# Altium schematic symbol library amp.SchLib: 167 symbols (part 1 of 2)
Pins are listed as number, name and electrical type; pins without a type are passive.

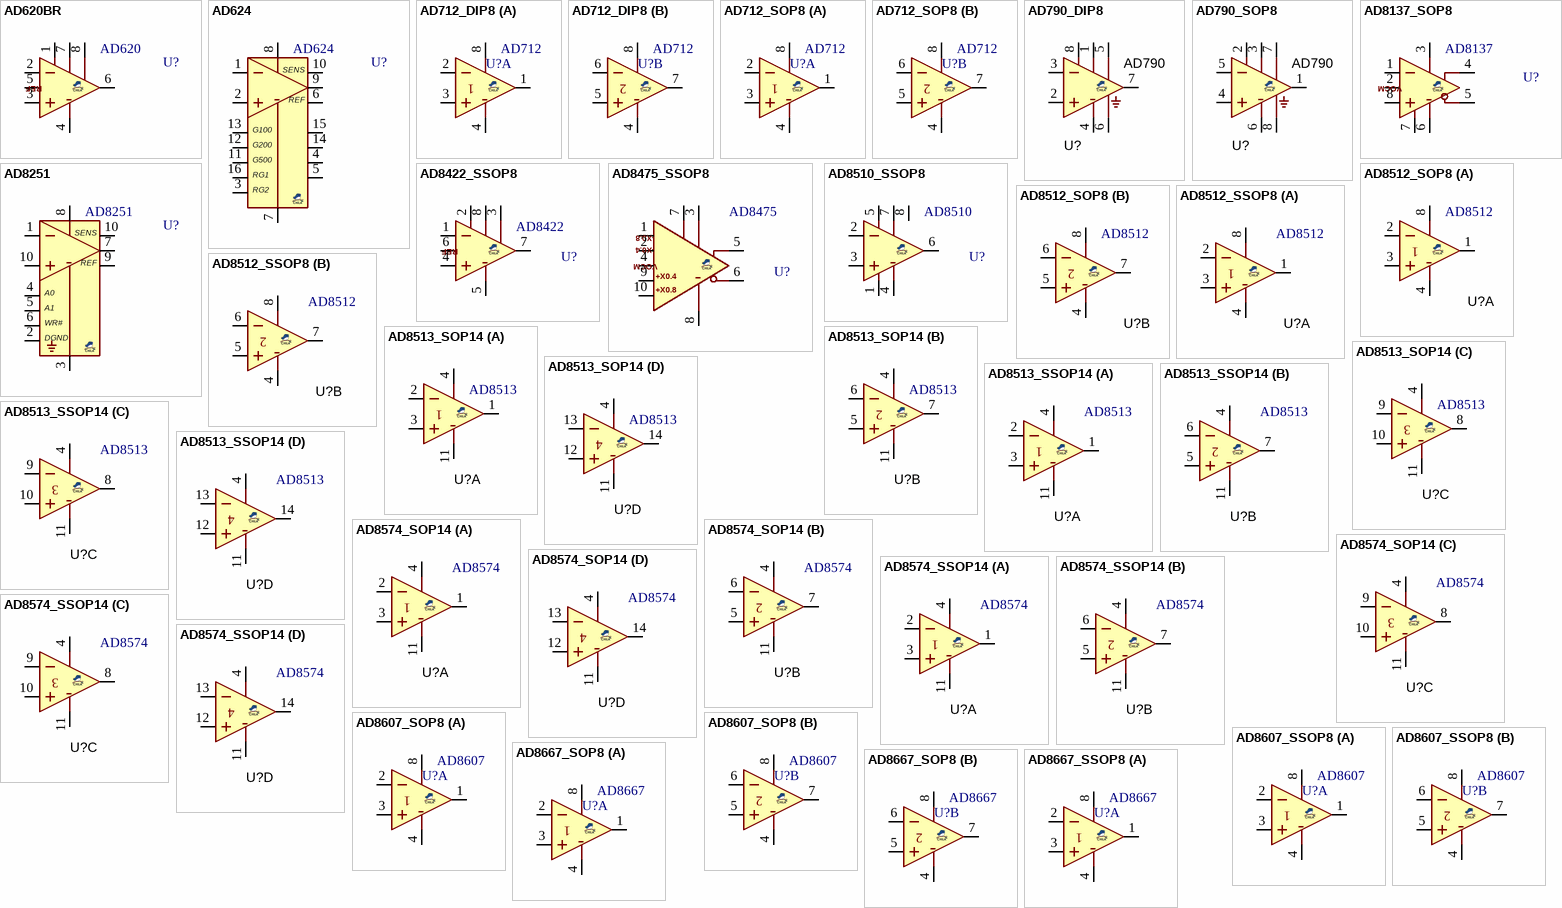
[diagram p0: symbols AD620BR to AD8667_SSOP8]

## AD620BR
designator U?, comment AD620
AMP, Instrumentation, Low-power; MANF_P#: AD620BR; MANF: Analog Devices; VALUE: AD620
footprint SO_8
pins: 1 RG, 2 -IN, 3 +IN, 4 V-, 5 REF, 6 OUT, 7 V+, 8 RG

## AD624
designator U?
AMP, Precision Instrumentation,; MANF: Analog Devices; MANF_P#: AD624; VALUE: AD624
footprint SO_8
pins: 1 -IN, 2 +IN, 3 RG2, 4, 5, 6 REF, 7 V-, 8 V+, 9 OUT, 10 SENS, 11 G500, 12 G200, 13 G100, 14, 15, 16 RG1

## AD712_DIP8
designator U?, comment AD712
AMP, Dual, Precision, Low Cost, High Sp, BiFET; MANF: Analog Devices; MANF_P#: AD712JN; PARAM2: ±4.5 To ±18 V Or +9 To +36 (V); VALUE: AD712
footprint DIP_8 (DIP, pitch 2.54mm, 300mil Width)
pins on every part: 4 V-, 8 V+
part A pins: 1 OUT, 2 IN-, 3 IN+
part B pins: 5 IN+, 6 IN-, 7 OUT

## AD712_SOP8
designator U?, comment AD712
AMP, Dual, Precision, Low Cost, High Sp, BiFET; MANF: Analog Devices; MANF_P#: AD712JRZ; PARAM2: ±4.5 To ±18 V Or +9 To +36 (V); VALUE: AD712
footprint SO_8
pins on every part: 4 V-, 8 V+
part A pins: 1 OUT, 2 IN-, 3 IN+
part B pins: 5 IN+, 6 IN-, 7 OUT

## AD790_DIP8
designator U?, comment AD790
Comparator, Fast Prec; MANF: Analog Devices; MANF_P#: AD790JNZ; PARAM2: 2.7 V ~ 16 V, ±1.35 V ~ 8 V; VALUE: AD790
footprint DIP_8 (DIP, pitch 2.54mm, 300mil Width)
pins: 1 VS+, 2 +IN, 3 -IN, 4 VS-, 5 ~{Latch}, 6 GND (power), 7 OUT, 8 Vlogic (power)

## AD790_SOP8
designator U?, comment AD790
Comparator, Fast Prec; MANF: Analog Devices; MANF_P#: AD790JRZ; PARAM2: 2.7 V ~ 16 V, ±1.35 V ~ 8 V; VALUE: AD790
footprint SO_8
pins: 1 OUT, 2 Vlogic (power), 3 VS+, 4 +IN, 5 -IN, 6 VS-, 7 ~{Latch}, 8 GND (power)

## AD8137_SOP8
designator U?, comment AD8137
AMP, Differential, LowCost, LowPWR; MANF: Analog Devices; MANF_P#: AD8137YRZ; PARAM2: 2.7~12v (±1.35~6V); PARAM: BW 110MHz, 450V/uS, -40~125°C; PRICE: 2.8$; VALUE: AD8137
footprint SO_8
pins: 1 IN-, 2 OCM (power), 3 V+, 4 OP, 5 ON, 6 V-, 7 EN, 8 IN+
text: VOCM

## AD8251
designator U?
AMP, PGA, 10MHz, 20 V/μs, G=1/2/4/8, iCMOS; MANF_P#: AD8251ARMZ; MANF: Analog Devices; VALUE: AD8251
footprint SOG50_10
pins: 1 IN-, 2 DGND, 3 VS-, 4 A0, 5 A1, 6 ~{WR}, 7 OUT, 8 VS+, 9 REF, 10 SENS, 10 IN+
text: WR#

## AD8422_SSOP8
designator U?, comment AD8422
AMP, Precision Instrumentation,; MANF: Analog Devices; MANF_P#: AD8422BRMZ; PARAM: 2.2MHz BW, 8nV/√Hz@1KHz, 20mA OUTPUT; PARAM2: 4.6~36V/±2.3~±18V; PRICE: 5.8$; VALUE: AD8422
footprint SOG65_8_3 (TSSOP8, MICRO8,  DGK VSSOP-8, MSOP8,   RM-8, MS8, MSOP-8, TSSO3X5-G8/D3.1, 8 uMAX, usop8/8uSOP, MO-187AA, MO-153AA, SSOP DCT SM8 (TI), pitch: 0.65mm, 3.0mmX3.0mm)
pins: 1 IN-, 2 RG, 3 RG, 4 IN+, 5 V-, 6 REF, 7 OUT, 8 V+

## AD8475_SSOP8
designator U?, comment AD8475
AMP, Precision, Fully Differential, Selectable Gain; MANF: Analog Devices; MANF_P#: AD8475ARMZ; PARAM: 150MHz BW, 10nV/√Hz@1KHz, 110mA OUT; PARAM2: 3~10V/±1.5~±5V; PRICE: 5.5$; VALUE: AD8475
footprint SOG50_10 (MSSOP10, 3X3mm 0.5mm pitch, S-PDSO10_S300-50, MSOP10, 10uSOP/usop10 (Dallas), MO-187BA(JEDEC))
pins: 1 IN-0.8x, 2 IN-0.4x, 3 V+, 4 VOCM, 5 OUT+, 6 OUT-, 7 NC, 8 V-, 9 IN+0.4x, 10 IN+0.8x
text: -X0.8; -X0.4; +X0.4; +X0.8

## AD8510_SSOP8
designator U?, comment AD8510
AMP, Precision, Low Noise, Low Input; MANF: Analog Devices; MANF_P#: AD8510ARMZ; PARAM: 8MHz BW, 8nV/√Hz@1KHz, 70mA OUT; PARAM2: ±5~±15V; PRICE: 3$; VALUE: AD8510
footprint SOG65_8_3 (TSSOP8, MICRO8,  DGK VSSOP-8, MSOP8,   RM-8, MS8, MSOP-8, TSSO3X5-G8/D3.1, 8 uMAX, usop8/8uSOP, MO-187AA, MO-153AA, SSOP DCT SM8 (TI), pitch: 0.65mm, 3.0mmX3.0mm)
pins: 1 VOSTRIM, 2 IN-, 3 IN+, 4 V-, 5 VOSTRIM, 6 OUT, 7 V+, 8 NC

## AD8512_SOP8
designator U?, comment AD8512
AMP, Dual, Precision, Very Low Noise, Low Input Bias Current, Wide Bandwidth JFET; MANF: Analog Devices Inc; MANF_P#: AD8512BRZ; PARAM2: 2.7 V ~ 16 V, ±1.35 V ~ 8 V; VALUE: AD8512
footprint SO_8
pins on every part: 4 V- (power), 8 V+ (power)
part A pins: 1 OUT, 2 IN-, 3 IN+
part B pins: 5 IN+, 6 IN-, 7 OUT

## AD8512_SSOP8
designator U?, comment AD8512
AMP, Dual, Precision, Very Low Noise, Low Input Bias Current, Wide Bandwidth JFET; MANF: Analog Devices Inc; MANF_P#: AD8510ARMZ; PARAM2: 2.7 V ~ 16 V, ±1.35 V ~ 8 V; VALUE: AD8512
footprint SOG65_8_3 (pitch: 0.65mm, 3.0mmX3.0mm, SSOP DCT SM8 (TI), TSSOP8, MICRO8, DGK, MSOP8, RM-8, MS8, MSOP-8, usop8/8uSOP)
pins on every part: 4 V- (power), 8 V+ (power)
part A pins: 1 OUT, 2 IN-, 3 IN+
part B pins: 5 IN+, 6 IN-, 7 OUT

## AD8513_SOP14
designator U?, comment AD8513
AMP, QuaD, Precision, Very Low Noise, Low Input Bias Current, Wide Bandwidth JFET; MANF: Analog Devices Inc; MANF_P#: AD8513ARZ; PARAM2: ±4.5 V ~ 18 V; VALUE: AD8513
footprint SO_14
part A pins: 1 OUT, 2 IN-, 3 IN+, 4 V+, 11 V-
part B pins: 4 V+, 5 IN+, 6 IN-, 7 OUT, 11 V-
part C pins: 4 V+, 8 OUT, 9 IN-, 10 IN+, 11 V-
part D pins: 4 V+, 11 V-, 12 IN+, 13 IN-, 14 OUT

## AD8513_SSOP14
designator U?, comment AD8513
AMP, QuaD, Precision, Very Low Noise, Low Input Bias Current, Wide Bandwidth JFET; MANF: Analog Devices Inc; MANF_P#: AD8513ARUZ; PARAM2: ±4.5 V ~ 18 V; VALUE: AD8513
footprint SOG65_14 (PW TSSOP (TI), MO-153-AB (JEDEC), 14Lead, pitch: 0.65mm, 5x4.4x1.2mm)
part A pins: 1 OUT, 2 IN-, 3 IN+, 4 V+, 11 V-
part B pins: 4 V+, 5 IN+, 6 IN-, 7 OUT, 11 V-
part C pins: 4 V+, 8 OUT, 9 IN-, 10 IN+, 11 V-
part D pins: 4 V+, 11 V-, 12 IN+, 13 IN-, 14 OUT

## AD8574_SOP14
designator U?, comment AD8574
AMP, Quad, Zero-Drift, Single-Supply, 10pA input; MANF: Analog Devices Inc; MANF_P#: AD8574ARZ; PARAM2: 2.7~5V; PARAM: 1uV OFFSET, 10pA input, -40~125°C; PRICE: 7.3$; VALUE: AD8574
footprint SO_14 (SOP, SOIC, 3.9mm width, 1.27mm pitch,)
part A pins: 1 OUT, 2 IN-, 3 IN+, 4 V+, 11 V-
part B pins: 4 V+, 5 IN+, 6 IN-, 7 OUT, 11 V-
part C pins: 4 V+, 8 OUT, 9 IN-, 10 IN+, 11 V-
part D pins: 4 V+, 11 V-, 12 IN+, 13 IN-, 14 OUT

## AD8574_SSOP14
designator U?, comment AD8574
AMP, Quad, Zero-Drift, Single-Supply, 10pA input; MANF: Analog Devices Inc; MANF_P#: AD8574TRU; PARAM2: 2.7~5V; PARAM: 1uV OFFSET, 10pA input, -40~125°C; PRICE: 7.3$; VALUE: AD8574
footprint SOG65_14 (PW TSSOP (TI), MO-153-AB (JEDEC), 14Lead, pitch: 0.65mm, 5x4.4x1.2mm)
part A pins: 1 OUT, 2 IN-, 3 IN+, 4 V+, 11 V-
part B pins: 4 V+, 5 IN+, 6 IN-, 7 OUT, 11 V-
part C pins: 4 V+, 8 OUT, 9 IN-, 10 IN+, 11 V-
part D pins: 4 V+, 11 V-, 12 IN+, 13 IN-, 14 OUT

## AD8607_SOP8
designator U?, comment AD8607
AMP, Dual, Precision Micropower, Low Noise CMOS; MANF: Analog Devices; MANF_P#: AD8607AR, AD8607ARZ; PARAM2: 1.8 V~5.0 V single supply, ±0.9 V~±2.5 V; VALUE: AD8607
footprint SO_8
pins on every part: 4 V-, 8 V+
part A pins: 1 OUT, 2 IN-, 3 IN+
part B pins: 5 IN+, 6 IN-, 7 OUT

## AD8607_SSOP8
designator U?, comment AD8607
AMP, Dual, Precision Micropower, Low Noise CMOS; MANF: Analog Devices; MANF_P#: AD8607ARM; PARAM2: 1.8 V~5.0 V single supply, ±0.9 V~±2.5 V; VALUE: AD8607
footprint SOG65_8_3 (pitch: 0.65mm, 3.0mmX3.0mm, SSOP DCT SM8 (TI), TSSOP8, MICRO8, DGK, MSOP8, RM-8, MS8, MSOP-8, usop8/8uSOP)
pins on every part: 4 V-, 8 V+
part A pins: 1 OUT, 2 IN-, 3 IN+
part B pins: 5 IN+, 6 IN-, 7 OUT

## AD8667_SOP8
designator U?, comment AD8667
AMP, Dual, Precision, Low Noise, 16V, CMOS; MANF: Analog Devices; MANF_P#: AD8667ARZ; PARAM2: 5~16V single supply, ±2.5~±8V; VALUE: AD8667
footprint SO_8
pins on every part: 4 V-, 8 V+
part A pins: 1 OUT, 2 IN-, 3 IN+
part B pins: 5 IN+, 6 IN-, 7 OUT

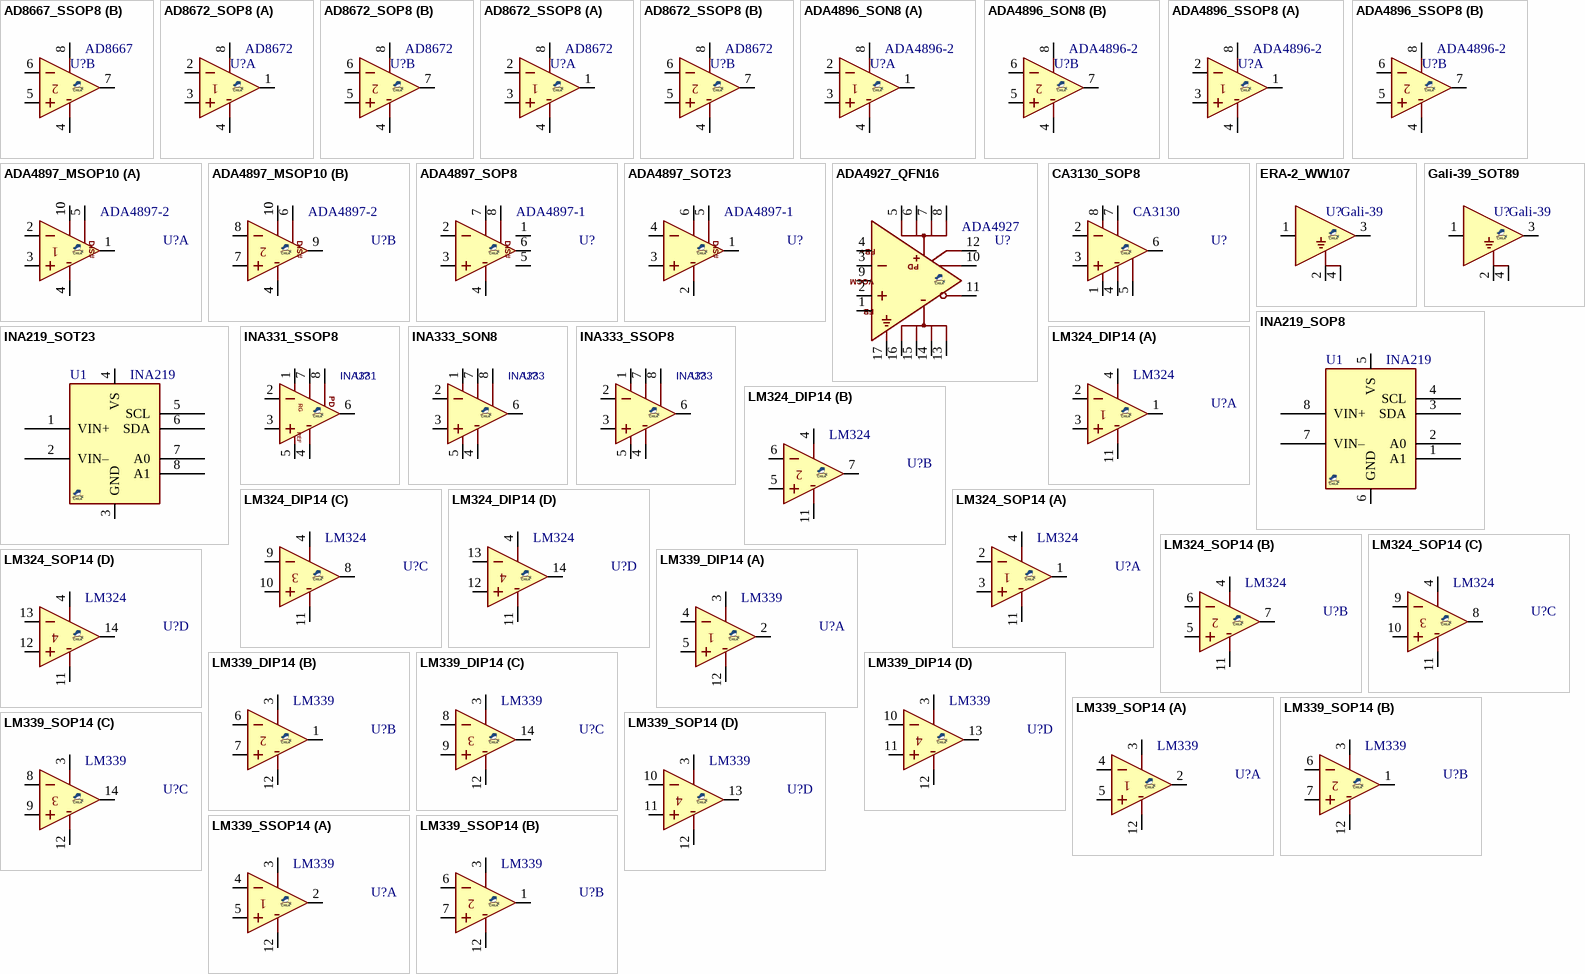
[diagram p1: symbols AD8667_SSOP8 to LM339_SSOP14]

## AD8667_SSOP8
designator U?, comment AD8667
AMP, Dual, Precision, Low Noise, 16V, CMOS; MANF: Analog Devices; MANF_P#: AD8667ARMZ; PARAM2: 5~16V single supply, ±2.5~±8V; VALUE: AD8667
footprint SOG65_8_3 (pitch: 0.65mm, 3.0mmX3.0mm, SSOP DCT SM8 (TI), TSSOP8, MICRO8, DGK, MSOP8, RM-8, MS8, MSOP-8, usop8/8uSOP)
pins on every part: 4 V-, 8 V+
part A pins: 1 OUT, 2 IN-, 3 IN+
part B pins: 5 IN+, 6 IN-, 7 OUT

## AD8672_SOP8
designator U?, comment AD8672
AMP, Dual, Precision, Low Noise, Low Input Bias Current; MANF: Analog Devices; MANF_P#: AD8672AR, AD8672ARZ; PARAM2: ±5~±15V; VALUE: AD8672
footprint SO_8
pins on every part: 4 V-, 8 V+
part A pins: 1 OUT, 2 IN-, 3 IN+
part B pins: 5 IN+, 6 IN-, 7 OUT

## AD8672_SSOP8
designator U?, comment AD8672
AMP, Dual, Precision, Low Noise, Low Input Bias Current; MANF: Analog Devices; MANF_P#: AD8672ARMZ; PARAM2: ±5~±15V; VALUE: AD8672
footprint SOG65_8_3 (pitch: 0.65mm, 3.0mmX3.0mm, SSOP DCT SM8 (TI), TSSOP8, MICRO8, DGK, MSOP8, RM-8, MS8, MSOP-8, usop8/8uSOP)
pins on every part: 4 V-, 8 V+
part A pins: 1 OUT, 2 IN-, 3 IN+
part B pins: 5 IN+, 6 IN-, 7 OUT

## ADA4896_SON8
designator U?, comment ADA4896-2
AMP, Low Noise, LowPower, LowDistortion; MANF: Analog Devices; MANF_P#: ADA4896-2ACPZ; PARAM2: 3~10v,  1nV/√Hz, 230MHz BW; PARAM: 3mA power, -40~125°C; PRICE: 7.7$; VALUE: ADA4896-2
footprint SON50_8T_3X3 (WSON-8, DRG, LFCSP_WD, 3X3mm 0.5mm pitch with Thermal pad)
pins on every part: 4 V-, 8 V+
part A pins: 1 OUT, 2 IN-, 3 IN+
part B pins: 5 IN+, 6 IN-, 7 OUT

## ADA4896_SSOP8
designator U?, comment ADA4896-2
AMP, Low Noise, LowPower, LowDistortion; MANF: Analog Devices; MANF_P#: ADA4896-2ARMZ; PARAM2: 3~10v,  1nV/√Hz, 230MHz BW; PARAM: 3mA power, -40~125°C; PRICE: 7.7$; VALUE: ADA4896-2
footprint SOG65_8_3 (pitch: 0.65mm, 3.0mmX3.0mm, SSOP DCT SM8 (TI), TSSOP8, MICRO8, DGK, MSOP8, RM-8, MS8, MSOP-8, usop8/8uSOP)
pins on every part: 4 V-, 8 V+
part A pins: 1 OUT, 2 IN-, 3 IN+
part B pins: 5 IN+, 6 IN-, 7 OUT

## ADA4897_MSOP10
designator U?, comment ADA4897-2
AMP, Low Noise, LowPower, LowDistortion; MANF: Analog Devices; MANF_P#: ADA4897-2ARMZ; PARAM2: 3~10v,  1nV/√Hz, 230MHz BW; PARAM: 3mA power, -40~125°C; PRICE: 7.7$; VALUE: ADA4897-2
footprint SOG50_10 (MSSOP10, 3X3mm 0.5mm pitch, S-PDSO10_S300-50, MSOP10, 10uSOP/usop10 (Dallas), MO-187BA(JEDEC))
pins on every part: 4 V-, 4 V-, 10 V+, 10 V+
part A pins: 1 OUT, 2 IN-, 3 IN+, 5 DISABLE1#
part B pins: 6 DISABLE1#, 7 IN+, 8 IN-, 9 OUT
part A text: DIS#
part B text: DIS#

## ADA4897_SOP8
designator U?, comment ADA4897-1
AMP, Low Noise, LowPower, LowDistortion; MANF: Analog Devices; MANF_P#: ADA4897-1ARZ; PARAM2: 3~10v,  1nV/√Hz, 230MHz BW; PARAM: 3mA power, -40~125°C; PRICE: 5$; VALUE: ADA4897-1
footprint SO_8 (SOP-8, 5x3.9mm body 1.27mm pitch, SOT96-1, M08A, S8, SOIC8, VO8, MS-012AA(JEDEC), R-8, 8S2, VOG8)
pins: 1 NC, 2 IN-, 3 IN+, 4 V-, 5 NC, 6 OUT, 7 V+, 8 DISABLE#
text: DIS#

## ADA4897_SOT23
designator U?, comment ADA4897-1
AMP, Low Noise, LowPower, LowDistortion; MANF: Analog Devices; MANF_P#: ADA4897-1ARJZ; PARAM2: 3~10v,  1nV/√Hz, 230MHz BW; PARAM: 3mA power, -40~125°C; PRICE: 6$; VALUE: ADA4897-1
footprint SOT23_6 (SOT-23-6, DDC, MICRO6, SOT-26, SOT457, SuperSOT6, TSOP-6, HMC313, MO-178AB, MO-193AA, TSOT)
pins: 1 OUT, 2 V-, 3 IN+, 4 IN-, 5 DISABLE#, 6 V+
text: DIS#

## ADA4927_QFN16
designator U?, comment ADA4927
AMP, Differential, Hi-Sp, Fully-Diff, Ultralow Distortion Current Feedback; MANF: Analog Devices; PARAM: 2.3GHz BW; MANF_P#: ADA4927-1YCPZ; PRICE: 1= 9$; PARAM2: PARAM2; VALUE: ADA4927
footprint QFN50_16T_3X3 (RGT PVQFN (TI), 16-lead, pitch: 0.5mm, 3x3mm)
pins: 1 -FB, 2 IN+, 3 IN-, 4 +FB, 5 V+ (power), 6 V+ (power), 7 V+ (power), 8 V+ (power), 9 VOCM, 10 OUT+, 11 OUT-, 12 PD, 13 V- (power), 14 V- (power), 15 V- (power), 16 V- (power), 17 THERMAL
text: FB+; FB-

## CA3130_SOP8
designator U?, comment CA3130
AMP, 15MHz, BiMOS, MOSFET Input/CMOS Output; MANF: Intresil; MANF_P#: CA3130AM; PARAM2: 5~16V, ±2.5~±8V; VALUE: CA3130
footprint SO_8
pins: 1 OFFSET_NULL, 2 IN-, 3 IN+, 4 V-, 5 OFFSET_NULL, 6 OUT, 7 V+, 8 STROBE

## ERA-2_WW107
designator U?, comment Gali-39
AMP, RF, Monolithic, DC-6GHz; MANF: Mini-Circuits; MANF_P#: ERA-2+; PARAM2: +7~20V; VALUE: Gali-39
footprint RDB_4_2X2 (ERA, AF320/WW107/AF190/PAT (MINI-CIRCUITS), MSA-0986)
pins: 1 RFIN, 2 G, 3 RFOUT, 4 GND

## Gali-39_SOT89
designator U?, comment Gali-39
AMP, RF, Monolithic, DC-7 GHz; MANF: Mini-Circuits; MANF_P#: Gali-39+; PARAM2: +7~20V; VALUE: Gali-39
footprint SOT89_3 (SOT89, SOT-89, SBF-4089, SOT89A, GALI, SC-62, DF782, TO-243AA(JEDEC))
pins: 1 IN, 2 G, 3 OUT, 4 GND

## INA219_SOP8
designator U1, comment INA219
Current/Power Monitor, Zerø-Drift, Bidirectional, I2C; MANF: TEXAS INSTRUMENTS; MANF_P#: INA219AID, INA219BID; PARAM2: 3~5.5VCC; PARAM: 0~26V, 0.5%, -40~125°C; VALUE: INA219
footprint SO_8 (SOP-8, 5x3.9mm body 1.27mm pitch, SOT96-1, M08A, S8, SOIC8, VO8, MS-012AA(JEDEC), R-8, 8S2, VOG8)
pins: 1 A1, 2 A0, 3 SDA, 4 SCL, 5 VS, 6 GND, 7 VIN–, 8 VIN+

## INA219_SOT23
designator U1, comment INA219
Current/Power Monitor, Zerø-Drift, Bidirectional, I2C; MANF: TEXAS INSTRUMENTS; MANF_P#: INA219AIDCN, INA219BIDCN; PARAM2: 3~5.5VCC; PARAM: 0~26V, 0.5%, -40~125°C; VALUE: INA219
footprint SOT23_8 (SOT23, 8-Leads, DDF, 2.90x2.80mm, Pitch 0.65mm, DSO65_8_300X150)
pins: 1 VIN+, 2 VIN–, 3 GND, 4 VS, 5 SCL, 6 SDA, 7 A0, 8 A1

## INA331_SSOP8
designator U?, comment INA331
AMP, Micro-power, Zerø-Drift; MANF: TEXAS INSTRUMENTS; MANF_P#: INA331IDGK; PARAM2: 2.7~5.5Vcc, 50nV/√Hz noise, 2MHz; PARAM: 0.1uV/°C Drift, 0.5pA input, -55~125°C; PRICE: 2.5$; VALUE: INA331
footprint SOG65_8_3 (TSSOP8, MICRO8,  DGK VSSOP-8, MSOP8,   RM-8, MS8, MSOP-8, TSSO3X5-G8/D3.1, 8 uMAX, usop8/8uSOP, MO-187AA, MO-153AA, SSOP DCT SM8 (TI), pitch: 0.65mm, 3.0mmX3.0mm)
pins: 1 RG1, 2 VIN_N, 3 VIN_P, 4 V-, 5 REF, 6 VOUT, 7 V+, 8 RG2
text: PD; RG

## INA333_SON8
designator U?, comment INA333
AMP, Micro-power, Zerø-Drift; MANF: TEXAS INSTRUMENTS; MANF_P#: INA333AIDRG; PARAM2: 1.8~5.5Vcc, 50nV/√Hz noise; PARAM: 0.1uV/°C Drift, 200pA input, -40~125°C; PRICE: 5$; VALUE: INA333
footprint SON50_8T_3X3 (WSON-8, DRG, LFCSP_WD, 3X3mm 0.5mm pitch with Thermal pad)
pins: 1 RG1, 2 VIN_N, 3 VIN_P, 4 V-, 5 REF, 6 VOUT, 7 V+, 8 RG2

## INA333_SSOP8
designator U?, comment INA333
AMP, Micro-power, Zerø-Drift; MANF: TEXAS INSTRUMENTS; MANF_P#: INA333AIDGK; PARAM2: 1.8~5.5Vcc, 50nV/√Hz noise; PARAM: 0.1uV/°C Drift, 200pA input, -40~125°C; PRICE: 5$; VALUE: INA333
footprint SOG65_8_3 (TSSOP8, MICRO8,  DGK VSSOP-8, MSOP8,   RM-8, MS8, MSOP-8, TSSO3X5-G8/D3.1, 8 uMAX, usop8/8uSOP, MO-187AA, MO-153AA, SSOP DCT SM8 (TI), pitch: 0.65mm, 3.0mmX3.0mm)
pins: 1 RG1, 2 VIN_N, 3 VIN_P, 4 V-, 5 REF, 6 VOUT, 7 V+, 8 RG2

## LM324_DIP14
designator U?, comment LM324
AMP, Quad, Single-Supply; MANF: ON, Texas Instruments, ST; MANF_P#: LM324AN; VALUE: LM324
footprint DIP_14 (DIP, pitch 2.54mm, 300mil Width)
pins on every part: 4 V+, 11 V-
part A pins: 1 OUT, 2 IN-, 3 IN+
part B pins: 5 IN+, 6 IN-, 7 OUT
part C pins: 8 OUT, 9 IN-, 10 IN+
part D pins: 12 IN+, 13 IN-, 14 OUT

## LM324_SOP14
designator U?, comment LM324
AMP, Quad, Single-Supply; MANF: ON, Texas Instruments, ST; MANF_P#: LM324AD; VALUE: LM324
footprint SO_14
pins on every part: 4 V+, 11 V-
part A pins: 1 OUT, 2 IN-, 3 IN+
part B pins: 5 IN+, 6 IN-, 7 OUT
part C pins: 8 OUT, 9 IN-, 10 IN+
part D pins: 12 IN+, 13 IN-, 14 OUT

## LM339_DIP14
designator U?, comment LM339
Comparator, Quad; MANF: Fairchild; MANF_P#: LM339N; PARAM2: +2~+36 V, ±1~±18V; VALUE: LM339
footprint DIP_14 (DIP, pitch 2.54mm, 300mil Width)
pins on every part: 3 V+, 12 V-
part A pins: 2 OUT, 4 IN-, 5 IN+
part B pins: 1 OUT, 6 IN-, 7 IN+
part C pins: 8 IN-, 9 IN+, 14 OUT
part D pins: 10 IN-, 11 IN+, 13 OUT

## LM339_SOP14
designator U?, comment LM339
Comparator, Quad; MANF: ST, Texas Instruments, ON; MANF_P#: LM339DT, LM339ADT, LM339MX, LM339AMX, LM339M, LM339AM, LM339DR2G; PARAM2: +2~+36 V, ±1~±18V; VALUE: LM339
footprint SO_14
pins on every part: 3 V+, 12 V-
part A pins: 2 OUT, 4 IN-, 5 IN+
part B pins: 1 OUT, 6 IN-, 7 IN+
part C pins: 8 IN-, 9 IN+, 14 OUT
part D pins: 10 IN-, 11 IN+, 13 OUT

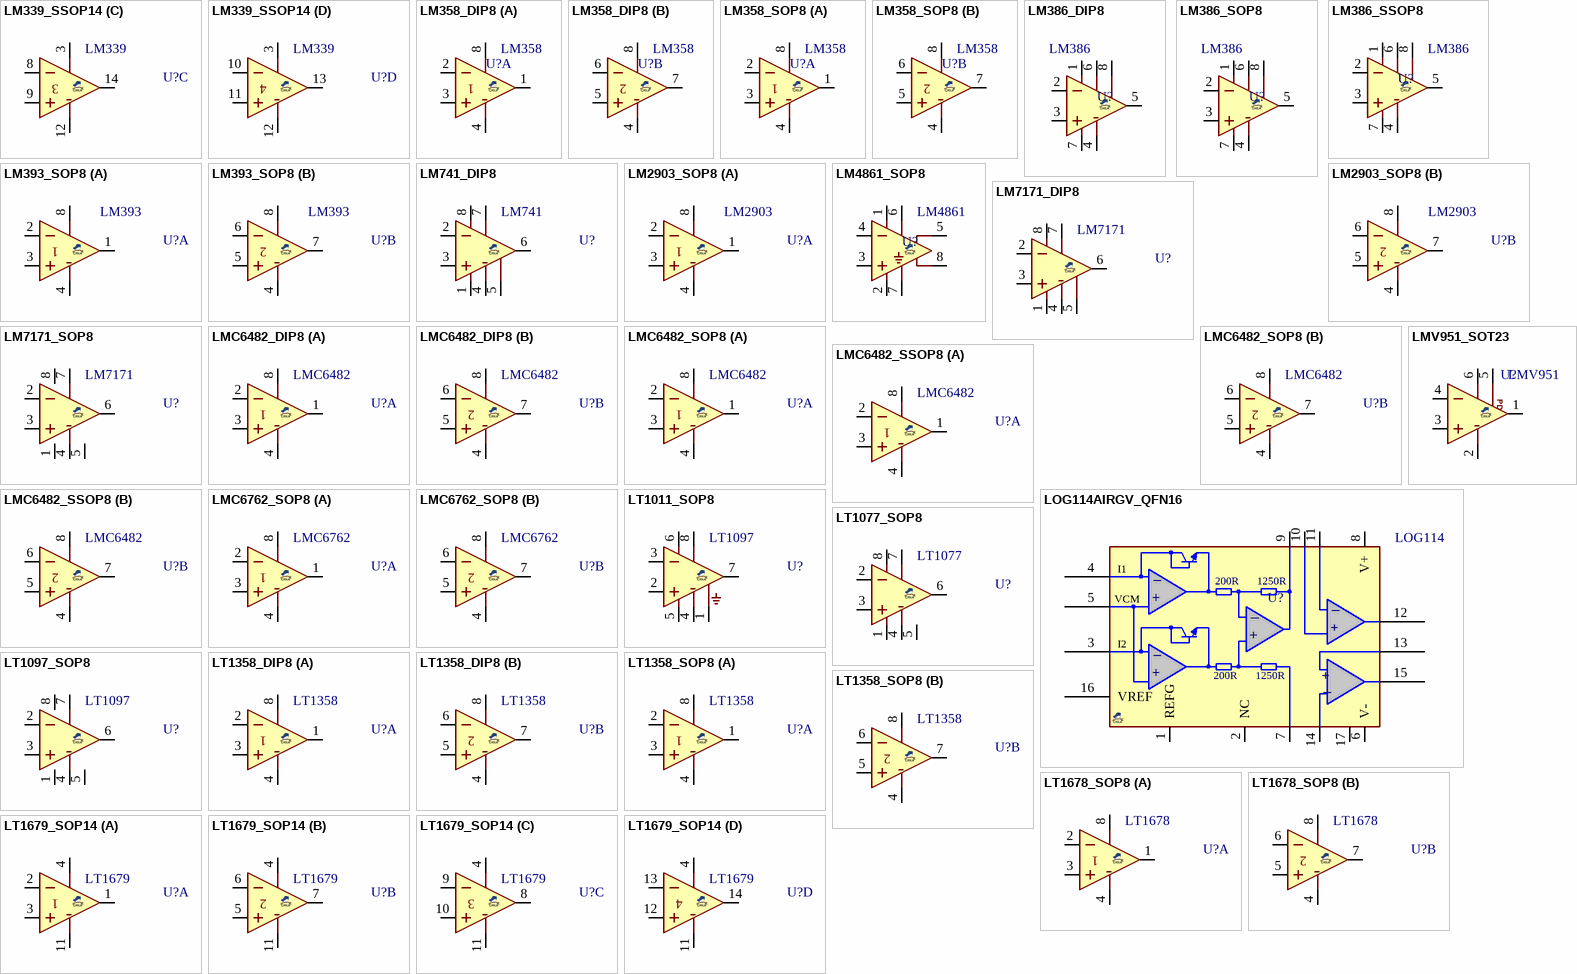
[diagram p2: symbols LM339_SSOP14 to LT1679_SOP14]

## LM339_SSOP14
designator U?, comment LM339
Comparator, Quad; MANF: ST, Texas Instruments, ON; MANF_P#: LM339APW, LM339DTBR2G, LM339PW, LM339PT; PARAM2: +2~+36 V, ±1~±18V; VALUE: LM339
footprint SOG65_14 (PW TSSOP (TI), MO-153-AB (JEDEC), 14Lead, pitch: 0.65mm, 5x4.4x1.2mm)
pins on every part: 3 V+, 12 V-
part A pins: 2 OUT, 4 IN-, 5 IN+
part B pins: 1 OUT, 6 IN-, 7 IN+
part C pins: 8 IN-, 9 IN+, 14 OUT
part D pins: 10 IN-, 11 IN+, 13 OUT

## LM358_DIP8
designator U?, comment LM358
AMP, Dual, Low-Power; MANF: Texas Instruments, Fairchild; MANF_P#: LM358AN; PARAM2: 3 V ~ 32 V, ±1.5 V ~ 16 V; PRICE: -; VALUE: LM358
footprint DIP_8 (DIP, pitch 2.54mm, 300mil Width)
pins on every part: 4 V-, 8 V+
part A pins: 1 OUT, 2 IN-, 3 IN+
part B pins: 5 IN+, 6 IN-, 7 OUT

## LM358_SOP8
designator U?, comment LM358
AMP, Dual, Low-Power; MANF: Texas Instruments, Fairchild; MANF_P#: LM358AMX; PARAM2: 3 V ~ 32 V, ±1.5 V ~ 16 V; PRICE: 1=0.47, 25=0.31, 100=0.2547, 250=0.21224, 500=0.17632, 750=0.14692, 1000=0.1306 (USD); VALUE: LM358
footprint SO_8
pins on every part: 4 V-, 8 V+
part A pins: 1 OUT, 2 IN-, 3 IN+
part B pins: 5 IN+, 6 IN-, 7 OUT

## LM386_DIP8
designator U?, comment LM386
AMP, Audio, Low Voltage, Power Amp; MANF: Texas Instruments; MANF_P#: LM386N-1; VALUE: LM386
footprint DIP_8 (DIP, pitch 2.54mm, 300mil Width)
pins: 1 GAIN, 2 IN-, 3 IN+, 4 GND, 5 VOUT, 6 VS, 7 BYPASS, 8 GAIN

## LM386_SOP8
designator U?, comment LM386
AMP, Audio, Low Voltage, Power Amp; MANF: Texas Instruments; MANF_P#: LM386MX-1; VALUE: LM386
footprint SO_8
pins: 1 GAIN, 2 IN-, 3 IN+, 4 GND, 5 VOUT, 6 VS, 7 BYPASS, 8 GAIN

## LM386_SSOP8
designator U?, comment LM386
AMP, Audio, Low Voltage, Power Amp; MANF: TEXAS INSTRUMENTS; MANF_P#: LM386MMX-1; VALUE: LM386
footprint SOG65_8_3 (pitch: 0.65mm, 3.0mmX3.0mm, SSOP DCT SM8 (TI), TSSOP8, MICRO8, DGK, MSOP8, RM-8, MS8, MSOP-8, usop8/8uSOP)
signal-integrity model Guessed Model (IC Model Details Guessed by Setup Helper)
pins: 1 GAIN, 2 IN-, 3 IN+, 4 GND, 5 VOUT, 6 VS, 7 BYPASS, 8 GAIN

## LM393_SOP8
designator U?, comment LM393
Comparator, Dual; MANF: ON, FAIRCHILD; MANF_P#: LM393D; PARAM2: 2~36V, ±1~18V; VALUE: LM393
footprint SO_8
part A pins: 1 OUT, 2 IN-, 3 IN+, 4 V-, 8 V+
part B pins: 4 V-, 5 IN+, 6 IN-, 7 OUT, 8 V+

## LM741_DIP8
designator U?, comment LM741
AMP, General-Purpose; MANF: Texas Instruments; MANF_P#: LM741CN; VALUE: LM741
footprint DIP_8 (DIP, pitch 2.54mm, 300mil Width)
pins: 1 OFFSET_NULL, 2 IN-, 3 IN+, 4 V-, 5 OFFSET_NULL, 6 OUT, 7 V+, 8 NC

## LM2903_SOP8
designator U?, comment LM2903
Comparator, Dual, 25nA BIAS CURRENT; MANF: ON, FAIRCHILD; MANF_P#: LM2903AQS; PARAM2: 2~36V, ±1~18V; VALUE: LM2903
footprint SO_8
part A pins: 1 OUT, 2 IN-, 3 IN+, 4 V-, 8 V+
part B pins: 4 V-, 5 IN+, 6 IN-, 7 OUT, 8 V+

## LM4861_SOP8
designator U?, comment LM4861
AMP, Audio, Power Amp, 1Watt; MANF: Texas Instruments; MANF_P#: LM4861MX, LM4861M; VALUE: LM4861
footprint SO_8
pins: 1 SHDN# "Shutdown", 2 BP "Bypass", 3 IN+ "Positive input", 4 IN- "Negative input", 5 VO1 "Output1", 6 VDD, 7 GND, 8 VO2 "Output2"

## LM7171_DIP8
designator U?, comment LM7171
AMP, Very High Sp, High Output Current, VoltageFeedback; MANF: Texas Instruments; MANF_P#: LM7171BIN; VALUE: LM7171
footprint DIP_8 (DIP, pitch 2.54mm, 300mil Width)
pins: 1, 2 IN-, 3 IN+, 4 V-, 5, 6 OUT, 7 V+, 8

## LM7171_SOP8
designator U?, comment LM7171
AMP, Very High Sp, High Output Current, VoltageFeedback; MANF: Texas Instruments; MANF_P#: LM7171BIMX, LM7171BIM, LM7171AIM; VALUE: LM7171
footprint SO_8
pins: 1, 2 IN-, 3 IN+, 4 V-, 5, 6 OUT, 7 V+, 8

## LMC6482_DIP8
designator U?, comment LMC6482
AMP, Dual,; MANF: Texas Instruments; MANF_P#: LMC6482IN, LMC6482AIN; VALUE: LMC6482
footprint DIP_8 (DIP, pitch 2.54mm, 300mil Width)
part A pins: 1 OUT, 2 IN-, 3 IN+, 4 V-, 8 V+
part B pins: 4 V-, 5 IN+, 6 IN-, 7 OUT, 8 V+

## LMC6482_SOP8
designator U?, comment LMC6482
AMP, Dual,; MANF: Texas Instruments; MANF_P#: LMC6482AIMX, LMC6482IMX, LMC6482AIM, LMC6482IM; VALUE: LMC6482
footprint SO_8
part A pins: 1 OUT, 2 IN-, 3 IN+, 4 V-, 8 V+
part B pins: 4 V-, 5 IN+, 6 IN-, 7 OUT, 8 V+

## LMC6482_SSOP8
designator U?, comment LMC6482
AMP, Dual,; MANF: Texas Instruments; MANF_P#: LMC6482IMMX, LMC6482IMM; VALUE: LMC6482
footprint SOG65_8_3 (pitch: 0.65mm, 3.0mmX3.0mm, SSOP DCT SM8 (TI), TSSOP8, MICRO8, DGK, MSOP8, RM-8, MS8, MSOP-8, usop8/8uSOP)
part A pins: 1 OUT, 2 IN-, 3 IN+, 4 V-, 8 V+
part B pins: 4 V-, 5 IN+, 6 IN-, 7 OUT, 8 V+

## LMC6762_SOP8
designator U?, comment LMC6762
AMP, Dual, MicroPower, Push-Pull Output, R-To-R Input CMOS Comparator; MANF: Texas Instruments; MANF_P#: LMC6762BIMX, LMC6762BIM, LMC6762AIMX, LMC6762AIM; VALUE: LMC6762
footprint SO_8
part A pins: 1 OUT, 2 IN-, 3 IN+, 4 V-, 8 V+
part B pins: 4 V-, 5 IN+, 6 IN-, 7 OUT, 8 V+

## LMV951_SOT23
designator U?, comment LMV951
AMP, 1V 2.7MHz RR Input & Output; MANF: Texas Instruments; MANF_P#: LMV951MK, LMV951MKX; VALUE: LMV951
footprint SOT23_6 (SOT-23-6, MICRO6, SOT-26, SOT457, SuperSOT6, TSOP-6, HMC313, MO-178AB, MO-193AA, TSOT)
pins: 1 OUT, 2 V-, 3 IN+, 4 IN-, 5 SHDN (power), 6 V+
text: PD

## LOG114AIRGV_QFN16
designator U?, comment LOG114
AMP, Logarithmic, Precision, High-Speed; MANF: Texas Instruments; MANF_P#: LOG114AIRGV; VALUE: LOG114
footprint QFN65_16T (MO-220 VGGC, MO-220 WGGC-4(JEDEC), 4X4mm, 0.65mm)
pins: 1 REFG, 2 NC, 3 I2, 4 I1, 5 Vcmin, 6 V-, 7 CON, 8 V+, 9 VlogOUT, 10 +IN4, 11 -IN4, 12 VO4, 13 +IN5, 14 -IN5, 15 VO5, 16 VREF, 17 PAD
text: _; 200R; 1250R; VCM; +

## LT1011_SOP8
designator U?, comment LT1097
Comparator, Voltage; MANF: Linear Technology; MANF_P#: LT1011CS8#; PARAM2: 2.7~16 V, ±1.35~8V; VALUE: LT1097
footprint SO_8
pins: 1 GND, 2 IN+, 3 IN-, 4 V-, 5 BALANCE, 6 BALSTRB, 7 OUT, 8 V+

## LT1077_SOP8
designator U?, comment LT1077
AMP, Precision, Micropower; MANF: Linear Technology; MANF_P#: LT1077IS8#; PARAM2: 2.2~30V, ±1.1~15V; PARAM: GBW= 230KHz; VALUE: LT1077
footprint SO_8
pins: 1 VOSTRM, 2 IN-, 3 IN+, 4 V-, 5 NC, 6 OUT, 7 V+, 8 VOSTRIM

## LT1097_SOP8
designator U?, comment LT1097
AMP, Precision, Low Power, Low Cost; MANF: Linear Technology; MANF_P#: LT1097S8#; PARAM2: 2.7~16 V, ±1.35~8V; VALUE: LT1097
footprint SO_8
pins: 1, 2 IN-, 3 IN+, 4 V-, 5, 6 OUT, 7 V+, 8

## LT1358_DIP8
designator U?, comment LT1358
AMP, Dual, 25MHz, 600V/µs; MANF: Linear Technology; MANF_P#: LT1358CN8, LT1358IN8; VALUE: LT1358
footprint DIP_8 (DIP, pitch 2.54mm, 300mil Width)
part A pins: 1 OUT, 2 IN-, 3 IN+, 4 V-, 8 V+
part B pins: 4 V-, 5 IN+, 6 IN-, 7 OUT, 8 V+

## LT1358_SOP8
designator U?, comment LT1358
AMP, Dual, 25MHz, 600V/µs; MANF: Linear Technology; MANF_P#: LT1358CS8, LT1358IS8; VALUE: LT1358
footprint SO_8
part A pins: 1 OUT, 2 IN-, 3 IN+, 4 V-, 8 V+
part B pins: 4 V-, 5 IN+, 6 IN-, 7 OUT, 8 V+

## LT1678_SOP8
designator U?, comment LT1678
AMP, Dual, Precision, Low Noise, RR; MANF: Linear Technology; MANF_P#: LT1678CS8, LT1678IS8; PARAM2: 2.7~36V, ±1.35~18V; VALUE: LT1678
footprint SO_8
part A pins: 1 OUT, 2 IN-, 3 IN+, 4 V-, 8 V+
part B pins: 4 V-, 5 IN+, 6 IN-, 7 OUT, 8 V+

## LT1679_SOP14
designator U?, comment LT1679
AMP, Dual, Precision, Low Noise, RR; MANF: Linear Technology; MANF_P#: LT1679CS, LT1679IS; PARAM2: 2.7~36V, ±1.35~18V; VALUE: LT1679
footprint SO_14
pins on every part: 4 V+, 11 V-
part A pins: 1 OUT, 2 IN-, 3 IN+
part B pins: 5 IN+, 6 IN-, 7 OUT
part C pins: 8 OUT, 9 IN-, 10 IN+
part D pins: 12 IN+, 13 IN-, 14 OUT

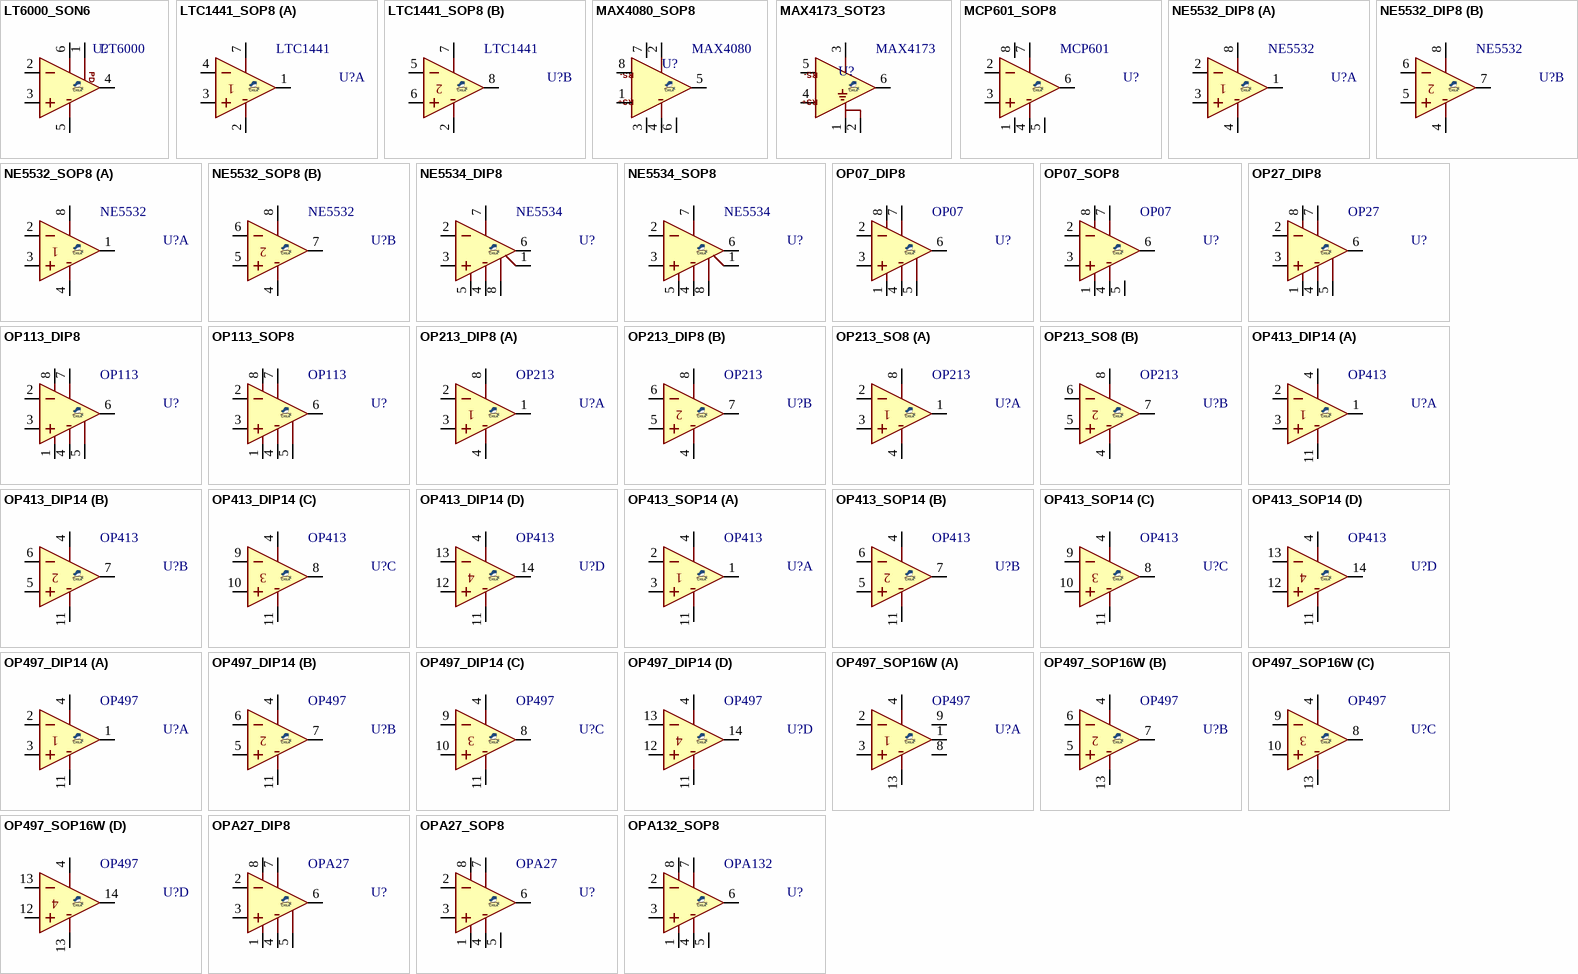
[diagram p3: symbols LT6000_SON6 to OPA132_SOP8]

## LT6000_SON6
designator U?, comment LT6000
AMP, Precision, 1.8V; MANF: Linear Technology; MANF_P#: LT6000CDCB, LT6000IDCB; VALUE: LT6000
footprint SON50_6T_2X3 (6-Lead DFN Pitch: 0.5mm 2x3x0.75mm with Thermal pad)
pins: 1 SHDN#, 2 IN-, 3 IN+, 4 OUT, 5 V-, 6 V+
text: PD

## LTC1441_SOP8
designator U?, comment LTC1441
Comparator, Dual, Ultralow Power, with Reference; MANF: Linear Technology; MANF_P#: LTC1441CS8, LTC1441IS8; PARAM2: 2.7~16V, ±1.35~8V; VALUE: LTC1441
footprint SO_8
part A pins: 1 OUT, 2 V-, 3 IN+, 4 IN-, 7 V+
part B pins: 2 V-, 5 IN-, 6 IN+, 7 V+, 8 OUT

## MAX4080_SOP8
designator U?, comment MAX4080
AMP, Current Sense, 76V High-Side, w/V Out; MANF: Maxim Integrated; MANF_P#: MAX4080SASA+; VALUE: MAX4080
footprint SO_8
pins: 1 RS+, 2 VCC, 3, 4 GND, 5 OUT, 6, 7, 8 RS-

## MAX4173_SOT23
designator U?, comment MAX4173
AMP, Current Sense, w/V Output; MANF: MAX4173HEUT+T; MANF_P#: MAX4173FEUT+T, MAX4173HEUT+T; VALUE: MAX4173
footprint SOT23_6 (SOT-23-6, MICRO6, SOT-26, SOT457, SuperSOT6, TSOP-6, HMC313, MO-178AB, MO-193AA, TSOT)
pins: 1 GND, 2 GND2, 3 VCC, 4 RS+, 5 RS-, 6 OUT

## MCP601_SOP8
designator U?, comment MCP601
AMP, 2.7~6.0V Single Supply CMOS; MANF: Microchip; MANF_P#: MCP601-I/SN, MCP601T-E/SN, MCP601-E/SN; VALUE: MCP601
footprint SO_8
pins: 1, 2 IN-, 3 IN+, 4 V-, 5, 6 OUT, 7 V+, 8

## NE5532_DIP8
designator U?, comment NE5532
AMP, Dual, Low-Noise; MANF: ON, Texas Instruments; MANF_P#: NE5532AN, NE5532P; VALUE: NE5532
footprint DIP_8 (DIP, pitch 2.54mm, 300mil Width)
part A pins: 1 OUT, 2 IN-, 3 IN+, 4 V-, 8 V+
part B pins: 4 V-, 5 IN+, 6 IN-, 7 OUT, 8 V+

## NE5532_SOP8
designator U?, comment NE5532
AMP, Dual, Low-Noise; MANF: ON, Texas Instruments; MANF_P#: NE5532AD; VALUE: NE5532
footprint SO_8
part A pins: 1 OUT, 2 IN-, 3 IN+, 4 V-, 8 V+
part B pins: 4 V-, 5 IN+, 6 IN-, 7 OUT, 8 V+

## NE5534_DIP8
designator U?, comment NE5534
AMP, Low-Noise; MANF: ON; MANF_P#: NE5534N; VALUE: NE5534
footprint DIP_8 (DIP, pitch 2.54mm, 300mil Width)
pins: 1 BALANCE, 2 IN-, 3 IN+, 4 V-, 5 COMP1, 6 OUT, 7 V+, 8 COMP2

## NE5534_SOP8
designator U?, comment NE5534
AMP, Low-Noise; MANF: ON, Texas Instruments; MANF_P#: NE5534AD; PARAM2: ±3~±20V; PRICE: 1$; VALUE: NE5534
footprint SO_8
pins: 1 BALANCE, 2 IN-, 3 IN+, 4 V-, 5 CMP1, 6 OUT, 7 V+, 8 CMP2

## OP07_DIP8
designator U?, comment OP07
AMP, Ultralow Offset; MANF: Analog Devices; MANF_P#: OP07EPZ, OP07DNZ, OP07CPZ; PARAM2: ±3~18V; VALUE: OP07
footprint DIP_8 (DIP, pitch 2.54mm, 300mil Width)
pins: 1 VOSTRM, 2 IN-, 3 IN+, 4 V-, 5 NC, 6 OUT, 7 V+, 8 VOSTRIM

## OP07_SOP8
designator U?, comment OP07
AMP, Ultralow Offset; MANF: Analog Devices; MANF_P#: OP07CSZ, OP07DRZ; PARAM2: ±3~18V; VALUE: OP07
footprint SO_8
pins: 1 VOSTRM, 2 IN-, 3 IN+, 4 V-, 5 NC, 6 OUT, 7 V+, 8 VOSTRIM

## OP27_DIP8
designator U?, comment OP27
AMP, Ultralow Offset; MANF: Analog Devices; PARAM2: ±3~18V; MANF_P#: OP27; VALUE: OP27
footprint DIP_8 (DIP, pitch 2.54mm, 300mil Width)
pins: 1 VOSTRM, 2 IN-, 3 IN+, 4 V-, 5 NC, 6 OUT, 7 V+, 8 VOSTRIM

## OP113_DIP8
designator U?, comment OP113
AMP, Low-Noise, Low Drift, Single-Supply; MANF: Analog Devices; MANF_P#: OP113EPZ; PARAM2: 4~36V, ±2~±18V; PARAM: 3.4 MHz BW; VALUE: OP113
footprint DIP_8 (DIP, pitch 2.54mm, 300mil Width)
pins: 1 OFFSET_NULL, 2 IN-, 3 IN+, 4 V-, 5 OFFSET_NULL, 6 OUT, 7 V+, 8 NC

## OP113_SOP8
designator U?, comment OP113
AMP, Low-Noise, Low Drift, Single-Supply; MANF: Analog Devices; MANF_P#: OP113ESZ; PARAM2: 4~36V, ±2~±18V; PARAM: 3.4 MHz BW; VALUE: OP113
footprint SO_8
pins: 1 OFFSET_NULL, 2 IN-, 3 IN+, 4 V-, 5 OFFSET_NULL, 6 OUT, 7 V+, 8 NC

## OP213_DIP8
designator U?, comment OP213
AMP, DUAL, Low-Noise, Low Drift, Single-Supply; MANF: Analog Devices; MANF_P#: OP213EP, OP213FP; PARAM2: 4~36V, ±2~±18V; VALUE: OP213
footprint DIP_8 (DIP, pitch 2.54mm, 300mil Width)
part A pins: 1 OUT, 2 IN-, 3 IN+, 4 V-, 8 V+
part B pins: 4 V-, 5 IN+, 6 IN-, 7 OUT, 8 V+

## OP213_SO8
designator U?, comment OP213
AMP, DUAL, Low-Noise, Low Drift, Single-Supply; MANF: Analog Devices; MANF_P#: OP213ES, OP213FS; PARAM2: 4~36V, ±2~±18V; VALUE: OP213
footprint SO_8
part A pins: 1 OUT, 2 IN-, 3 IN+, 4 V-, 8 V+
part B pins: 4 V-, 5 IN+, 6 IN-, 7 OUT, 8 V+

## OP413_DIP14
designator U?, comment OP413
AMP, Low-Noise, Low Drift, Single-Supply; MANF: Analog Devices; MANF_P#: OP413EP, OP413FP; PARAM2: 4~36V, ±2~±18V; VALUE: OP413
footprint DIP_14 (DIP, pitch 2.54mm, 300mil Width)
pins on every part: 4 V+, 11 V-
part A pins: 1 OUT, 2 IN-, 3 IN+
part B pins: 5 IN+, 6 IN-, 7 OUT
part C pins: 8 OUT, 9 IN-, 10 IN+
part D pins: 12 IN+, 13 IN-, 14 OUT

## OP413_SOP14
designator U?, comment OP413
AMP, Low-Noise, Low Drift, Single-Supply; MANF: Analog Devices; MANF_P#: OP413ES, OP413FS; PARAM2: 4~36V, ±2~±18V; VALUE: OP413
footprint SO_14
pins on every part: 4 V+, 11 V-
part A pins: 1 OUT, 2 IN-, 3 IN+
part B pins: 5 IN+, 6 IN-, 7 OUT
part C pins: 8 OUT, 9 IN-, 10 IN+
part D pins: 12 IN+, 13 IN-, 14 OUT

## OP497_DIP14
designator U?, comment OP497
AMP, Precision, PicoampereInputCurrent, QUAD; MANF: Analog Devices; MANF_P#: OP497GPZ, OP497FPZ; PARAM2: ±2~±20V; PARAM: 75uV OFFSET, 1uV/°C DRIFT, 150pA BIAS, -40~85°C; PRICE: 10$; VALUE: OP497
footprint DIP_14 (DIP, pitch 2.54mm, 300mil Width)
pins on every part: 4 V+, 11 V-
part A pins: 1 OUT, 2 IN-, 3 IN+
part B pins: 5 IN+, 6 IN-, 7 OUT
part C pins: 8 OUT, 9 IN-, 10 IN+
part D pins: 12 IN+, 13 IN-, 14 OUT

## OP497_SOP16W
designator U?, comment OP497
AMP, Precision, PicoampereInputCurrent, QUAD; MANF: Analog Devices; MANF_P#: OP497FSZ, OP497GSZ; PARAM2: ±2~±20V; PARAM: 75uV OFFSET, 1uV/°C DRIFT, 150pA BIAS, -40~85°C; PRICE: 5000t@PAYA, 8$; VALUE: OP497
footprint SO_16_W (SOP, SOIC, 7.5mm width, 1.27mm pitch,)
pins on every part: 4 V+, 13 V-
part A pins: 1 OUT, 2 IN-, 3 IN+, 8 NC, 9 NC
part B pins: 5 IN+, 6 IN-, 7 OUT
part C pins: 8 OUT, 9 IN-, 10 IN+
part D pins: 12 IN+, 13 IN-, 14 OUT

## OPA27_DIP8
designator U?, comment OPA27
AMP, Ultra-Low Noise, Precision; MANF: Texas Instruments; MANF_P#: OPA27GP; PARAM2: ±4~22V,  4.5nV/√Hz, 8MHz; PARAM: 100uV OFFSET, 0.4uV/°C, -40~85°C; PRICE: 3.6$; VALUE: OPA27
footprint DIP_8 (DIP, pitch 2.54mm, 300mil Width)
pins: 1 VOSTRM, 2 IN-, 3 IN+, 4 V-, 5 NC, 6 OUT, 7 V+, 8 VOSTRIM

## OPA27_SOP8
designator U?, comment OPA27
AMP, Ultra-Low Noise, Precision; MANF: Texas Instruments; MANF_P#: OPA27GU; PARAM2: ±4~22V,  4.5nV/√Hz, 8MHz; PARAM: 100uV OFFSET, 0.4uV/°C, -40~85°C; PRICE: 6000t@PAYA, 3.7$; VALUE: OPA27
footprint SO_8 (SOP-8, 5x3.9mm body 1.27mm pitch, SOT96-1, M08A, S8, SOIC8, VO8, MS-012AA(JEDEC), R-8, 8S2, VOG8)
pins: 1 VOSTRM, 2 IN-, 3 IN+, 4 V-, 5 NC, 6 OUT, 7 V+, 8 VOSTRIM

## OPA132_SOP8
designator U?, comment OPA132
AMP, Ultra-Low Noise, Precision; MANF: Texas Instruments; MANF_P#: OPA132U; PARAM2: ±2.5~±18V, 8nV/√Hz, 8MHz BW; PARAM: 50pA, 20V/us, 500uV OFFSET, -40~125°C; PRICE: 5000t@PAYA, 4$; VALUE: OPA132
footprint SO_8 (SOP-8, 5x3.9mm body 1.27mm pitch, SOT96-1, M08A, S8, SOIC8, VO8, MS-012AA(JEDEC), R-8, 8S2, VOG8)
pins: 1 VOSTRM, 2 IN-, 3 IN+, 4 V-, 5 NC, 6 OUT, 7 V+, 8 VOSTRIM

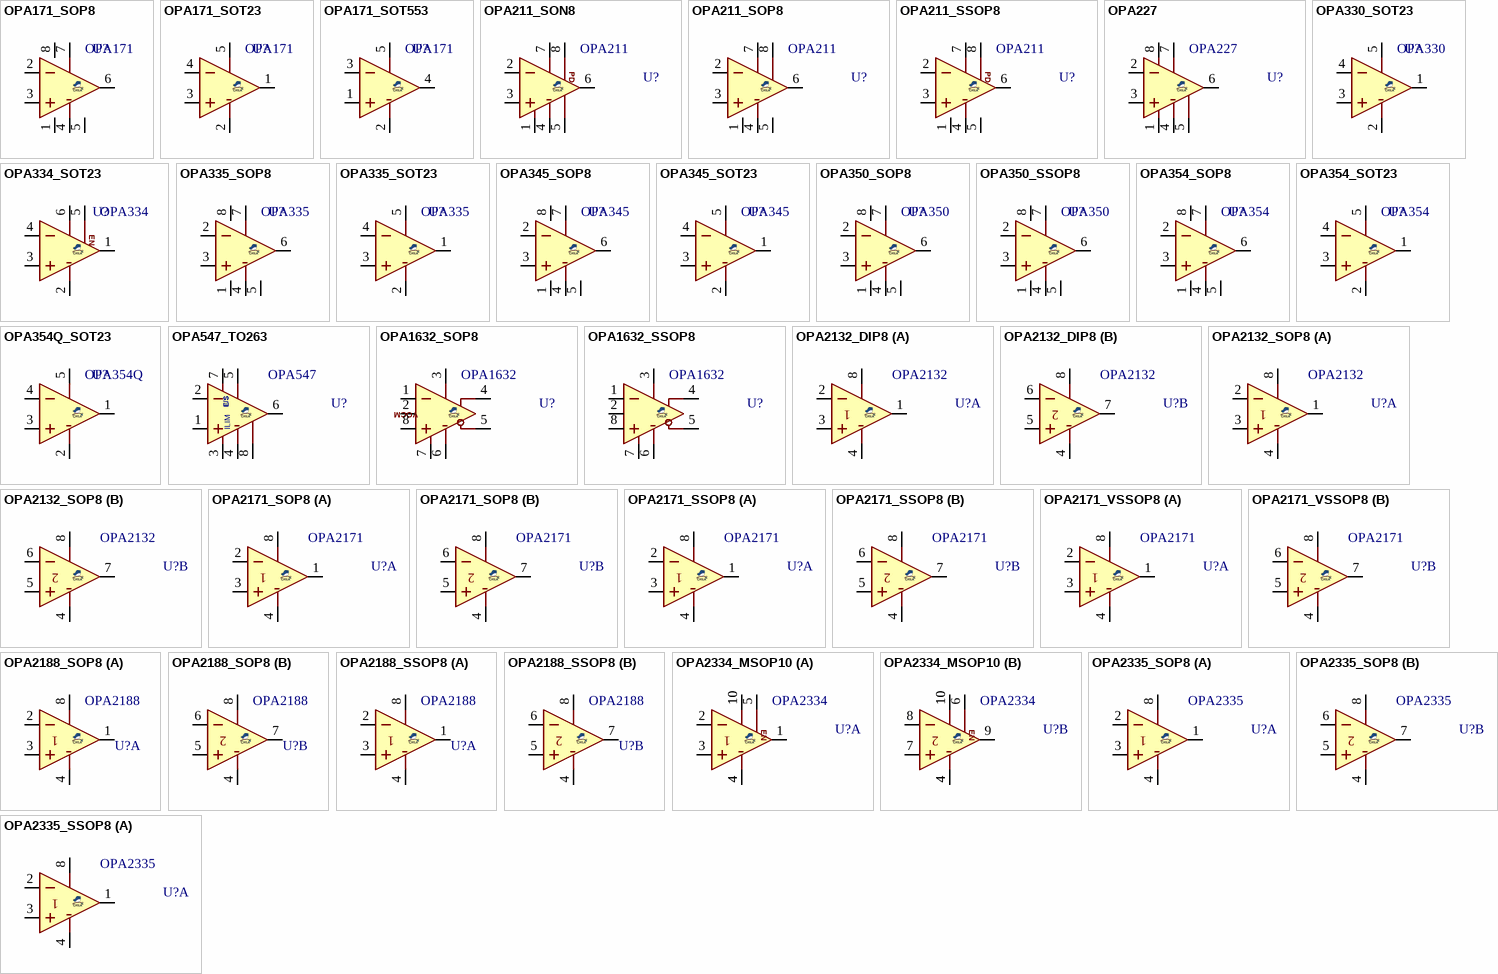
[diagram p4: symbols OPA171_SOP8 to OPA2335_SSOP8]

## OPA171_SOP8
designator U?, comment OPA171
AMP, Low Noise, Low Drift, Single-Supply; MANF: Texas Instruments; MANF_P#: OPA171AID; PARAM2: 2.7~36V, ±1.35~±18V, 3MHz BW; PARAM: 8pA input, 14nV/√Hz, -40~125°C; PRICE: 5000t@PAYA, 1.4$; VALUE: OPA171
footprint SO_8 (SOP-8, 5x3.9mm body 1.27mm pitch, SOT96-1, M08A, S8, SOIC8, VO8, MS-012AA(JEDEC), R-8, 8S2, VOG8)
pins: 1 NC, 2 IN-, 3 IN+, 4 V-, 5 NC, 6 OUT, 7 V+, 8 NC

## OPA171_SOT23
designator U?, comment OPA171
AMP, Low Noise, Low Drift, Single-Supply; MANF: Texas Instruments; MANF_P#: OPA171AIDBV; PARAM2: 2.7~36V, ±1.35~±18V, 3MHz BW; PARAM: 8pA input, 14nV/√Hz, -40~125°C; PRICE: 5000t@PAYA, 1.4$; VALUE: OPA171
footprint SOT23_5 (SOT-23-5, SOT25, SOT-25, DBV(R-PDSO-G5), TSOT23-5, SC-74A, SOT23-5, S5-T (LINEAR), MO-178AA, MO-193AB(JEDEC), MF05A (NS), TSOP-6(ON), UJ-5 (AD))
pins: 1 OUT, 2 V-, 3 IN+, 4 IN-, 5 V+

## OPA171_SOT553
designator U?, comment OPA171
AMP, Low Noise, Low Drift, Single-Supply; MANF: Texas Instruments; MANF_P#: OPA171AIDRL; PARAM2: 2.7~36V, ±1.35~±18V, 3MHz BW; PARAM: 8pA input, 14nV/√Hz, -40~125°C; PRICE: 1.6$; VALUE: OPA171
footprint SOT553_5 (SOT-553, 5 LEAD, Body 1.2x1.6mm, Pitch 0.50mm, DSO50_5_160X120)
pins: 1 IN+, 2 V-, 3 IN-, 4 OUT, 5 V+

## OPA211_SON8
designator U?, comment OPA211
AMP, Precision, 1.1nV/rtHz Noise, Lo Pwr; MANF: Texas Instruments; MANF_P#: OPA211AIDRG; PARAM2: ±2.25~±18V/4.5~36V, 80MHz BW; PARAM: 30mA out, 3.6mA supply, -40~125oC; PRICE: 7$; VALUE: OPA211
footprint SON50_8T_3X3 (Footprint not found)
pins: 1, 2 IN-, 3 IN+, 4 V-, 5, 6 OUT, 7 V+, 8 SHDN
text: PD

## OPA211_SOP8
designator U?, comment OPA211
AMP, Precision, 1.1nV/rtHz Noise, Lo Pwr; MANF: Texas Instruments; MANF_P#: OPA211AID, OPA211ID; PARAM2: ±2.25~±18V/4.5~36V, 80MHz BW; PARAM: 30mA out, 3.6mA supply, -40~125oC; PRICE: 7$; VALUE: OPA211
footprint SO_8
pins: 1, 2 IN-, 3 IN+, 4 V-, 5, 6 OUT, 7 V+, 8 SHDN

## OPA211_SSOP8
designator U?, comment OPA211
AMP, Precision, 1.1nV/rtHz Noise, Lo Pwr; MANF: Texas Instruments; MANF_P#: OPA211AIDGK, OPA211MDGKTEP, OPA211IDGK; PARAM2: ±2.25~±18V/4.5~36V, 80MHz BW; PARAM: 30mA out, 3.6mA supply, -40~125oC; PRICE: 7$; VALUE: OPA211
footprint SOG65_8_3 (pitch: 0.65mm, 3.0mmX3.0mm, SSOP DCT SM8 (TI), TSSOP8, MICRO8, DGK, MSOP8, RM-8, MS8, MSOP-8, usop8/8uSOP)
pins: 1, 2 IN-, 3 IN+, 4 V-, 5, 6 OUT, 7 V+, 8 SHDN
text: PD

## OPA227
designator U?
AMP, High Precision, Low Noise, 3nV/√Hz; MANF: Texas Instruments; MANF_P#: OPA227UA; PARAM2: ±2.5~±18V, 8MHz BW; PARAM: 10nA input, -40~85°C; VALUE: OPA227
footprint SO_8
pins: 1 TRIM, 2 IN-, 3 IN+, 4 V-, 5 NC, 6 OUT, 7 V+, 8 TRIM

## OPA330_SOT23
designator U?, comment OPA330
AMP, Precision, Low Drift; MANF: Texas Instruments; MANF_P#: OPA330AIDBV; VALUE: OPA330
footprint SOT23_5 (SOT-23-5, SOT25, SOT-25, DBV(R-PDSO-G5), TSOT23-5, SC-74A, SOT23-5, S5-T (LINEAR), MO-178AA, MO-193AB(JEDEC), MF05A (NS), TSOP-6(ON), UJ-5 (AD))
pins: 1 OUT, 2 V-, 3 IN+, 4 IN-, 5 V+

## OPA334_SOT23
designator U?, comment OPA334
AMP, Low Offset, Zero Drift, Single-Supply; MANF: Texas Instruments; MANF_P#: OPA334AIDBV; PARAM2: 2.7~5.5V, ±1.35~±2.75V; PARAM: 0.05uV/°C Drift, 5uV Offset, -40~125°C; PRICE: 3$; VALUE: OPA334
footprint SOT23_6 (SOT-23-6, DDC, MICRO6, SOT-26, SOT457, SuperSOT6, TSOP-6, HMC313, MO-178AB, MO-193AA, TSOT)
pins: 1 OUT, 2 V-, 3 IN+, 4 IN-, 5 EN, 6 V+

## OPA335_SOP8
designator U?, comment OPA335
AMP, Low Offset, Zero Drift, Single-Supply; MANF: Texas Instruments; MANF_P#: OPA335AID; PARAM2: 2.7~5.5V, ±1.35~±2.75V; PARAM: 0.05uV/°C Drift, 5uV Offset, -40~125°C; PRICE: 7000t@PAYA, 3$; VALUE: OPA335
footprint SO_8 (SOP-8, 5x3.9mm body 1.27mm pitch, SOT96-1, M08A, S8, SOIC8, VO8, MS-012AA(JEDEC), R-8, 8S2, VOG8)
pins: 1 NC, 2 IN-, 3 IN+, 4 V-, 5 NC, 6 OUT, 7 V+, 8 NC

## OPA335_SOT23
designator U?, comment OPA335
AMP, Low Offset, Zero Drift, Single-Supply; MANF: Texas Instruments; MANF_P#: OPA335AIDBV; PARAM2: 2.7~5.5V, ±1.35~±2.75V; PARAM: 0.05uV/°C Drift, 5uV Offset, -40~125°C; PRICE: 3$; VALUE: OPA335
footprint SOT23_5 (SOT-23-5, SOT25, SOT-25, DBV(R-PDSO-G5), TSOT23-5, SC-74A, SOT23-5, S5-T (LINEAR), MO-178AA, MO-193AB(JEDEC), MF05A (NS), TSOP-6(ON), UJ-5 (AD))
pins: 1 OUT, 2 V-, 3 IN+, 4 IN-, 5 V+

## OPA345_SOP8
designator U?, comment OPA345
AMP, Low Power, Rail-to-Rail, Single-Supply; MANF: Texas Instruments; MANF_P#: OPA345UA; PARAM2: 2.5~5.5V, 3MHz BW; PARAM: 2v/us, -40~85°C; PRICE: 6000t@PAYA, 1.6$; VALUE: OPA345
footprint SO_8 (SOP-8, 5x3.9mm body 1.27mm pitch, SOT96-1, M08A, S8, SOIC8, VO8, MS-012AA(JEDEC), R-8, 8S2, VOG8)
pins: 1 NC, 2 IN-, 3 IN+, 4 V-, 5 NC, 6 OUT, 7 V+, 8 NC

## OPA345_SOT23
designator U?, comment OPA345
AMP, Low Power, Rail-to-Rail, Single-Supply; MANF: Texas Instruments; MANF_P#: OPA345NA; PARAM2: 2.5~5.5V, 3MHz BW; PARAM: 2v/us, -40~85°C; PRICE: 1.5$; VALUE: OPA345
footprint SOT23_5 (SOT-23-5, SOT25, SOT-25, DBV(R-PDSO-G5), TSOT23-5, SC-74A, SOT23-5, S5-T (LINEAR), MO-178AA, MO-193AB(JEDEC), MF05A (NS), TSOP-6(ON), UJ-5 (AD))
pins: 1 OUT, 2 V-, 3 IN+, 4 IN-, 5 V+

## OPA350_SOP8
designator U?, comment OPA350
AMP, Low Power, Rail-to-Rail, Single-Supply; MANF: Texas Instruments; MANF_P#: OPA350UA; PARAM2: 2.7~5.5V, 38MHz BW; PARAM: 5nV/√Hz, 22V/us, -40~85°C; PRICE: 2.7$; VALUE: OPA350
footprint SO_8 (SOP-8, 5x3.9mm body 1.27mm pitch, SOT96-1, M08A, S8, SOIC8, VO8, MS-012AA(JEDEC), R-8, 8S2, VOG8)
pins: 1 NC, 2 IN-, 3 IN+, 4 V-, 5 NC, 6 OUT, 7 V+, 8 NC

## OPA350_SSOP8
designator U?, comment OPA350
AMP, Low Power, Rail-to-Rail, Single-Supply; MANF: Texas Instruments; MANF_P#: OPA350EA; PARAM2: 2.7~5.5V, 38MHz BW; PARAM: 5nV/√Hz, 22V/us, -40~85°C; PRICE: 3$; VALUE: OPA350
footprint SOG65_8_3 (TSSOP8, MICRO8, DGK VSSOP-8, pitch: 0.65mm, 3X3mm, MSOP8, RM-8, MS8, MSOP-8, TSSO3X5-G8/D3.1, 8 uMAX, usop8/8uSOP, MO-187AA, MO-153AA, SSOP DCT (TI))
pins: 1 NC, 2 IN-, 3 IN+, 4 V-, 5 NC, 6 OUT, 7 V+, 8 NC

## OPA354_SOP8
designator U?, comment OPA354
AMP, Low Noise, Rail-to-Rail, Single-Supply; MANF: Texas Instruments; MANF_P#: OPA354AIDDA; PARAM2: 2.5~5.5V, 6.5nV/√Hz, 250MHz BW; PARAM: 100mA out, 3pA in, 150v/us, -40~125°C; PRICE: 1.8$; VALUE: OPA354
footprint SO_8 (SOP-8, 5x3.9mm body 1.27mm pitch, SOT96-1, M08A, S8, SOIC8, VO8, MS-012AA(JEDEC), R-8, 8S2, VOG8)
pins: 1 NC, 2 IN-, 3 IN+, 4 V-, 5 NC, 6 OUT, 7 V+, 8 NC

## OPA354_SOT23
designator U?, comment OPA354
AMP, Low Noise, Rail-to-Rail, Single-Supply; MANF: Texas Instruments; MANF_P#: OPA354AIDBV; PARAM2: 2.5~5.5V, 6.5nV/√Hz, 250MHz BW; PARAM: 100mA out, 3pA in, 150v/us, -40~125°C; PRICE: 3000t@PAYA, 1.8$; VALUE: OPA354
footprint SOT23_5 (SOT-23-5, SOT25, SOT-25, DBV(R-PDSO-G5), TSOT23-5, SC-74A, SOT23-5, S5-T (LINEAR), MO-178AA, MO-193AB(JEDEC), MF05A (NS), TSOP-6(ON), UJ-5 (AD))
pins: 1 OUT, 2 V-, 3 IN+, 4 IN-, 5 V+

## OPA354Q_SOT23
designator U?, comment OPA354Q
AMP, Low Noise, Rail-to-Rail, Single-Supply; MANF: Texas Instruments; MANF_P#: OPA354AQDBVRQ1; PARAM2: 2.5~5.5V, 6.5nV/√Hz, 250MHz BW; PARAM: 100mA out, 3pA in, 150v/us, -40~125°C; PRICE: 2.2$; VALUE: OPA354Q
footprint SOT23_5 (SOT-23-5, SOT25, SOT-25, DBV(R-PDSO-G5), TSOT23-5, SC-74A, SOT23-5, S5-T (LINEAR), MO-178AA, MO-193AB(JEDEC), MF05A (NS), TSOP-6(ON), UJ-5 (AD))
pins: 1 OUT, 2 V-, 3 IN+, 4 IN-, 5 V+

## OPA547_TO263
designator U?, comment OPA547
AMP, HighVoltage, High Current; MANF: Texas Instruments; MANF_P#: OPA547F; PARAM2: ±4~±30V/8~60v; PARAM: 0.5A; VALUE: OPA547
footprint D2PAK_7 (TO-263-7, D2PAK-7, FMG127_7_S1000)
pins: 1 IN+, 2 IN-, 3 ILIM, 4 V-, 5 V+, 6 OUT, 7 E/S, 8 EP

## OPA1632_SOP8
designator U?, comment OPA1632
AMP, Audio, Differential; MANF: Texas Instruments; MANF_P#: OPA1632D; VALUE: OPA1632
footprint SO_8
pins: 1 IN-, 2 OCM (power), 3 V+, 4 OP, 5 ON, 6 V-, 7 EN, 8 IN+
text: VOCM

## OPA1632_SSOP8
designator U?, comment OPA1632
AMP, Audio, Differential; MANF: Texas Instruments; MANF_P#: OPA1632DGN; VALUE: OPA1632
footprint SOG65_8T_3
pins: 1 IN-, 2 OCM (power), 3 V+, 4 OP, 5 ON, 6 V-, 7 EN, 8 IN+

## OPA2132_DIP8
designator U?, comment OPA2132
AMP, Ultra-Low Noise, Precision; MANF: Texas Instruments; MANF_P#: OPA2132PA; PARAM2: ±2.5~±18V, 8nV/√Hz, 8MHz BW; PARAM: 50pA, 20V/us, 500uV OFFSET, -40~125°C; PRICE: 7$; VALUE: OPA2132
footprint DIP_8 (DIP, pitch 2.54mm, 300mil Width)
part A pins: 1 OUT, 2 IN-, 3 IN+, 4 V-, 8 V+
part B pins: 4 V-, 5 IN+, 6 IN-, 7 OUT, 8 V+

## OPA2132_SOP8
designator U?, comment OPA2132
AMP, Ultra-Low Noise, Precision; MANF: Texas Instruments; MANF_P#: OPA2132UA; PARAM2: ±2.5~±18V, 8nV/√Hz, 8MHz BW; PARAM: 50pA, 20V/us, 500uV OFFSET, -40~125°C; PRICE: 7$; VALUE: OPA2132
footprint SO_8 (SOP-8, 5x3.9mm body 1.27mm pitch, SOT96-1, M08A, S8, SOIC8, VO8, MS-012AA(JEDEC), R-8, 8S2, VOG8)
part A pins: 1 OUT, 2 IN-, 3 IN+, 4 V-, 8 V+
part B pins: 4 V-, 5 IN+, 6 IN-, 7 OUT, 8 V+

## OPA2171_SOP8
designator U?, comment OPA2171
AMP, Low Noise, Low Drift, Single-Supply; MANF: Texas Instruments; MANF_P#: OPA2171AID; PARAM2: 2.7~36V, ±1.35~±18V, 3MHz BW; PARAM: 8pA input, 14nV/√Hz, -40~125°C; PRICE: 2.2$; VALUE: OPA2171
footprint SO_8 (SOP-8, 5x3.9mm body 1.27mm pitch, SOT96-1, M08A, S8, SOIC8, VO8, MS-012AA(JEDEC), R-8, 8S2, VOG8)
part A pins: 1 OUT, 2 IN-, 3 IN+, 4 V-, 8 V+
part B pins: 4 V-, 5 IN+, 6 IN-, 7 OUT, 8 V+

## OPA2171_SSOP8
designator U?, comment OPA2171
AMP, Low Noise, Low Drift, Single-Supply; MANF: Texas Instruments; MANF_P#: OPA2171AIDGK; PARAM2: 2.7~36V, ±1.35~±18V, 3MHz BW; PARAM: 8pA input, 14nV/√Hz, -40~125°C; PRICE: 2.2$; VALUE: OPA2171
footprint SOG65_8_3 (TSSOP8, MICRO8,  DGK VSSOP-8, MSOP8,   RM-8, MS8, MSOP-8, TSSO3X5-G8/D3.1, 8 uMAX, usop8/8uSOP, MO-187AA, MO-153AA, SSOP DCT SM8 (TI), pitch: 0.65mm, 3.0mmX3.0mm)
part A pins: 1 OUT, 2 IN-, 3 IN+, 4 V-, 8 V+
part B pins: 4 V-, 5 IN+, 6 IN-, 7 OUT, 8 V+

## OPA2171_VSSOP8
designator U?, comment OPA2171
AMP, Low Noise, Low Drift, Single-Supply; MANF: Texas Instruments; MANF_P#: OPA2171AIDCU; PARAM2: 2.7~36V, ±1.35~±18V, 3MHz BW; PARAM: 8pA input, 14nV/√Hz, -40~125°C; PRICE: 2.2$; VALUE: OPA2171
footprint SOG50_8 (VSSOP DCU US8  (TI), 8-Leads, 2.00x2.30mm, Pitch 0.50mm)
part A pins: 1 OUT, 2 IN-, 3 IN+, 4 V-, 8 V+
part B pins: 4 V-, 5 IN+, 6 IN-, 7 OUT, 8 V+

## OPA2188_SOP8
designator U?, comment OPA2188
AMP, DUAL, Precision, Low Noise, Low Quiescent Current; MANF: Texas Instruments; MANF_P#: OPA2188AID; PARAM2: 4~36v, 2MHz BW; PARAM: 850pA in, 18mA out, -40~105°C; PRICE: 3.3$; VALUE: OPA2188
footprint SO_8
pins on every part: 4 V-, 8 V+
part A pins: 1 OUT, 2 IN-, 3 IN+
part B pins: 5 IN+, 6 IN-, 7 OUT

## OPA2188_SSOP8
designator U?, comment OPA2188
AMP, DUAL, Precision, Low Noise, Low Quiescent Current; MANF: Texas Instruments; MANF_P#: OPA2188AIDGK; PARAM2: 4~36v, 2MHz BW; PARAM: 850pA in, 18mA out, -40~105°C; PRICE: 3.3$; VALUE: OPA2188
footprint SOG65_8_3 (pitch: 0.65mm, 3.0mmX3.0mm, SSOP DCT SM8 (TI), TSSOP8, MICRO8, DGK, MSOP8, RM-8, MS8, MSOP-8, usop8/8uSOP)
pins on every part: 4 V-, 8 V+
part A pins: 1 OUT, 2 IN-, 3 IN+
part B pins: 5 IN+, 6 IN-, 7 OUT

## OPA2334_MSOP10
designator U?, comment OPA2334
AMP, Low Offset, Zero Drift, Single-Supply; MANF: Texas Instruments; MANF_P#: OPA2334AIDGS; PARAM2: 2.7~5.5V, ±1.35~±2.75V; PARAM: 0.05uV/°C Drift, 5uV Offset, -40~125°C; PRICE: 6$; VALUE: OPA2334
footprint SOG50_10 (MSSOP10, 3X3mm 0.5mm pitch, S-PDSO10_S300-50, MSOP10, 10uSOP/usop10 (Dallas), MO-187BA(JEDEC))
pins on every part: 4 V-, 4 V-, 10 V+, 10 V+
part A pins: 1 OUT, 2 IN-, 3 IN+, 5 EN1
part B pins: 6 EN2, 7 IN+, 8 IN-, 9 OUT
part A text: EN
part B text: EN

## OPA2335_SOP8
designator U?, comment OPA2335
AMP, Low Offset, Zero Drift, Single-Supply; MANF: Texas Instruments; MANF_P#: OPA2335AIDR; PARAM2: 2.7~5.5V, ±1.35~±2.75V; PARAM: 0.05uV/°C Drift, 5uV Offset, -40~125°C; PRICE: 5$; VALUE: OPA2335
footprint SO_8 (SOP-8, 5x3.9mm body 1.27mm pitch, SOT96-1, M08A, S8, SOIC8, VO8, MS-012AA(JEDEC), R-8, 8S2, VOG8)
part A pins: 1 OUT, 2 IN-, 3 IN+, 4 V-, 8 V+
part B pins: 4 V-, 5 IN+, 6 IN-, 7 OUT, 8 V+

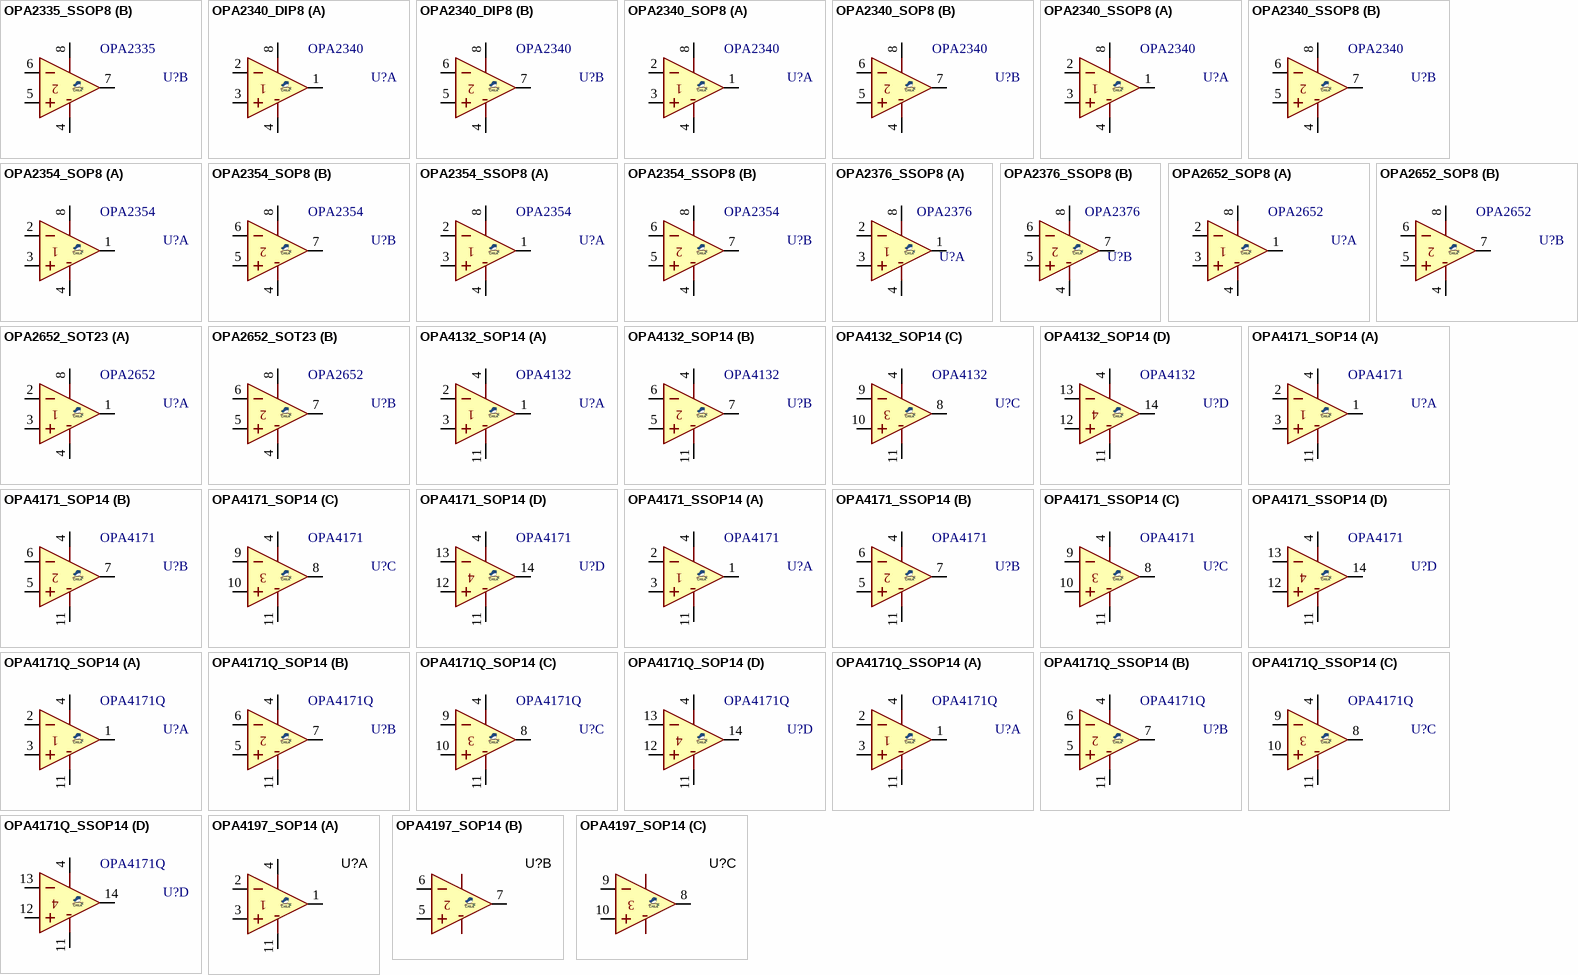
[diagram p5: symbols OPA2335_SSOP8 to OPA4197_SOP14]

## OPA2335_SSOP8
designator U?, comment OPA2335
AMP, Low Offset, Zero Drift, Single-Supply; MANF: Texas Instruments; MANF_P#: OPA2335AIDGK; PARAM2: 2.7~5.5V, ±1.35~±2.75V; PARAM: 0.05uV/°C Drift, 5uV Offset, -40~125°C; PRICE: 5$; VALUE: OPA2335
footprint SOG65_8_3 (TSSOP8, MICRO8,  DGK VSSOP-8, MSOP8,   RM-8, MS8, MSOP-8, TSSO3X5-G8/D3.1, 8 uMAX, usop8/8uSOP, MO-187AA, MO-153AA, SSOP DCT SM8 (TI), pitch: 0.65mm, 3.0mmX3.0mm)
part A pins: 1 OUT, 2 IN-, 3 IN+, 4 V-, 8 V+
part B pins: 4 V-, 5 IN+, 6 IN-, 7 OUT, 8 V+

## OPA2340_DIP8
designator U?, comment OPA2340
AMP, Rail-to-Rail, Dual; MANF: Texas Instruments; MANF_P#: OPA2340PA; PARAM2: 2.5~5.5V, 5.5MHz BW; PARAM: 6v/us, -40~85°C; PRICE: 4$; VALUE: OPA2340
footprint DIP_8 (DIP, pitch 2.54mm, 300mil Width)
part A pins: 1 OUT, 2 IN-, 3 IN+, 4 V-, 8 V+
part B pins: 4 V-, 5 IN+, 6 IN-, 7 OUT, 8 V+

## OPA2340_SOP8
designator U?, comment OPA2340
AMP, Rail-to-Rail, Dual; MANF: Texas Instruments; MANF_P#: OPA2340UA; PARAM2: 2.5~5.5V, 5.5MHz BW; PARAM: 6v/us, -40~85°C; PRICE: 10000t@PAYA, 4$; VALUE: OPA2340
footprint SO_8 (SOP-8, 5x3.9mm body 1.27mm pitch, SOT96-1, M08A, S8, SOIC8, VO8, MS-012AA(JEDEC), R-8, 8S2, VOG8)
part A pins: 1 OUT, 2 IN-, 3 IN+, 4 V-, 8 V+
part B pins: 4 V-, 5 IN+, 6 IN-, 7 OUT, 8 V+

## OPA2340_SSOP8
designator U?, comment OPA2340
AMP, Rail-to-Rail, Dual; MANF: Texas Instruments; MANF_P#: OPA2340EA; PARAM2: 2.5~5.5V, 5.5MHz BW; PARAM: 6v/us, -40~85°C; PRICE: 4$; VALUE: OPA2340
footprint SOG65_8_3 (TSSOP8, MICRO8,  DGK VSSOP-8, MSOP8,   RM-8, MS8, MSOP-8, TSSO3X5-G8/D3.1, 8 uMAX, usop8/8uSOP, MO-187AA, MO-153AA, SSOP DCT SM8 (TI), pitch: 0.65mm, 3.0mmX3.0mm)
part A pins: 1 OUT, 2 IN-, 3 IN+, 4 V-, 8 V+
part B pins: 4 V-, 5 IN+, 6 IN-, 7 OUT, 8 V+

## OPA2354_SOP8
designator U?, comment OPA2354
AMP, Low Noise, Rail-to-Rail, Single-Supply; MANF: Texas Instruments; MANF_P#: OPA2354AIDDA; PARAM2: 2.5~5.5V, 6.5nV/√Hz, 250MHz BW; PARAM: 100mA out, 3pA in, 150v/us, -40~125°C; PRICE: 3$; VALUE: OPA2354
footprint SO_8 (SOP-8, 5x3.9mm body 1.27mm pitch, SOT96-1, M08A, S8, SOIC8, VO8, MS-012AA(JEDEC), R-8, 8S2, VOG8)
part A pins: 1 OUT, 2 IN-, 3 IN+, 4 V-, 8 V+
part B pins: 4 V-, 5 IN+, 6 IN-, 7 OUT, 8 V+

## OPA2354_SSOP8
designator U?, comment OPA2354
AMP, Low Noise, Rail-to-Rail, Single-Supply; MANF: Texas Instruments; MANF_P#: OPA2354AIDGK; PARAM2: 2.5~5.5V, 6.5nV/√Hz, 250MHz BW; PARAM: 100mA out, 3pA in, 150v/us, -40~125°C; PRICE: 3$; VALUE: OPA2354
footprint SOG65_8_3 (TSSOP8, MICRO8,  DGK VSSOP-8, MSOP8,   RM-8, MS8, MSOP-8, TSSO3X5-G8/D3.1, 8 uMAX, usop8/8uSOP, MO-187AA, MO-153AA, SSOP DCT SM8 (TI), pitch: 0.65mm, 3.0mmX3.0mm)
part A pins: 1 OUT, 2 IN-, 3 IN+, 4 V-, 8 V+
part B pins: 4 V-, 5 IN+, 6 IN-, 7 OUT, 8 V+

## OPA2376_SSOP8
designator U?, comment OPA2376
AMP, DUAL, Precision, Low Noise, Low Quiescent Current; MANF: Texas Instruments; MANF_P#: OPA2376AIDGK; VALUE: OPA2376
footprint SOG65_8_3 (pitch: 0.65mm, 3.0mmX3.0mm, SSOP DCT SM8 (TI), TSSOP8, MICRO8, DGK, MSOP8, RM-8, MS8, MSOP-8, usop8/8uSOP)
pins on every part: 4 V-, 8 V+
part A pins: 1 OUT, 2 IN-, 3 IN+
part B pins: 5 IN+, 6 IN-, 7 OUT

## OPA2652_SOP8
designator U?, comment OPA2652
AMP, Rail-to-Rail, Dual; MANF: Texas Instruments; MANF_P#: OPA2652U; PARAM2: ±3~±6V/6~12V, 700MHz BW; PARAM: 140mA out, 5.5mA supply, -40~85°C; PRICE: 3.6$; VALUE: OPA2652
footprint SO_8 (SOP-8, 5x3.9mm body 1.27mm pitch, SOT96-1, M08A, S8, SOIC8, VO8, MS-012AA(JEDEC), R-8, 8S2, VOG8)
part A pins: 1 OUT, 2 IN-, 3 IN+, 4 V-, 8 V+
part B pins: 4 V-, 5 IN+, 6 IN-, 7 OUT, 8 V+

## OPA2652_SOT23
designator U?, comment OPA2652
AMP, Rail-to-Rail, Dual; MANF: Texas Instruments; MANF_P#: OPA2652E; PARAM2: ±3~±6V/6~12V, 700MHz BW; PARAM: 140mA out, 5.5mA supply, -40~85°C; PRICE: 6000t@PAYA, 3.6$; VALUE: OPA2652
footprint SOT23_8 (SOT23, 8-Leads, DDF, 2.90x2.80mm, Pitch 0.65mm, DSO65_8_300X150)
part A pins: 1 OUT, 2 IN-, 3 IN+, 4 V-, 8 V+
part B pins: 4 V-, 5 IN+, 6 IN-, 7 OUT, 8 V+

## OPA4132_SOP14
designator U?, comment OPA4132
AMP, Ultra-Low Noise, Precision; MANF: Texas Instruments; MANF_P#: OPA4132UA; PARAM2: ±2.5~±18V, 8nV/√Hz, 8MHz BW; PARAM: 50pA, 20V/us, 500uV OFFSET, -40~125°C; PRICE: 7$; VALUE: OPA4132
footprint SO_14 (SOP, SOIC, 3.9mm width, 1.27mm pitch,)
part A pins: 1 OUT, 2 IN-, 3 IN+, 4 V+, 11 V-
part B pins: 4 V+, 5 IN+, 6 IN-, 7 OUT, 11 V-
part C pins: 4 V+, 8 OUT, 9 IN-, 10 IN+, 11 V-
part D pins: 4 V+, 11 V-, 12 IN+, 13 IN-, 14 OUT

## OPA4171_SOP14
designator U?, comment OPA4171
AMP, Low Noise, Low Drift, Single-Supply; MANF: Texas Instruments; MANF_P#: OPA4171AID; PARAM2: 2.7~36V, ±1.35~±18V, 3MHz BW; PARAM: 8pA input, 14nV/√Hz, -40~125°C; PRICE: 3$; VALUE: OPA4171
footprint SO_14 (SOP, SOIC, 3.9mm width, 1.27mm pitch,)
part A pins: 1 OUT, 2 IN-, 3 IN+, 4 V+, 11 V-
part B pins: 4 V+, 5 IN+, 6 IN-, 7 OUT, 11 V-
part C pins: 4 V+, 8 OUT, 9 IN-, 10 IN+, 11 V-
part D pins: 4 V+, 11 V-, 12 IN+, 13 IN-, 14 OUT

## OPA4171_SSOP14
designator U?, comment OPA4171
AMP, Low Noise, Low Drift, Single-Supply; MANF: Texas Instruments; MANF_P#: OPA4171AIPW; PARAM2: 2.7~36V, ±1.35~±18V, 3MHz BW; PARAM: 8pA input, 14nV/√Hz, -40~125°C; PRICE: 3$; VALUE: OPA4171
footprint SOG65_14 (PW TSSOP (TI), MO-153-AB (JEDEC), 14Lead, pitch: 0.65mm, 5x4.4x1.2mm)
part A pins: 1 OUT, 2 IN-, 3 IN+, 4 V+, 11 V-
part B pins: 4 V+, 5 IN+, 6 IN-, 7 OUT, 11 V-
part C pins: 4 V+, 8 OUT, 9 IN-, 10 IN+, 11 V-
part D pins: 4 V+, 11 V-, 12 IN+, 13 IN-, 14 OUT

## OPA4171Q_SOP14
designator U?, comment OPA4171Q
AMP, Low Noise, Low Drift, Single-Supply; MANF: Texas Instruments; MANF_P#: OPA4171AQDRQ1; PARAM2: 2.7~36V, ±1.35~±18V, 3MHz BW; PARAM: 8pA input, 14nV/√Hz, -40~125°C; PRICE: 3$; VALUE: OPA4171Q
footprint SO_14 (SOP, SOIC, 3.9mm width, 1.27mm pitch,)
part A pins: 1 OUT, 2 IN-, 3 IN+, 4 V+, 11 V-
part B pins: 4 V+, 5 IN+, 6 IN-, 7 OUT, 11 V-
part C pins: 4 V+, 8 OUT, 9 IN-, 10 IN+, 11 V-
part D pins: 4 V+, 11 V-, 12 IN+, 13 IN-, 14 OUT

## OPA4171Q_SSOP14
designator U?, comment OPA4171Q
AMP, Low Noise, Low Drift, Single-Supply; MANF: Texas Instruments; MANF_P#: OPA4171AQPWRQ1; PARAM2: 2.7~36V, ±1.35~±18V, 3MHz BW; PARAM: 8pA input, 14nV/√Hz, -40~125°C; PRICE: 3$; VALUE: OPA4171Q
footprint SOG65_14 (PW TSSOP (TI), MO-153-AB (JEDEC), 14Lead, pitch: 0.65mm, 5x4.4x1.2mm)
part A pins: 1 OUT, 2 IN-, 3 IN+, 4 V+, 11 V-
part B pins: 4 V+, 5 IN+, 6 IN-, 7 OUT, 11 V-
part C pins: 4 V+, 8 OUT, 9 IN-, 10 IN+, 11 V-
part D pins: 4 V+, 11 V-, 12 IN+, 13 IN-, 14 OUT

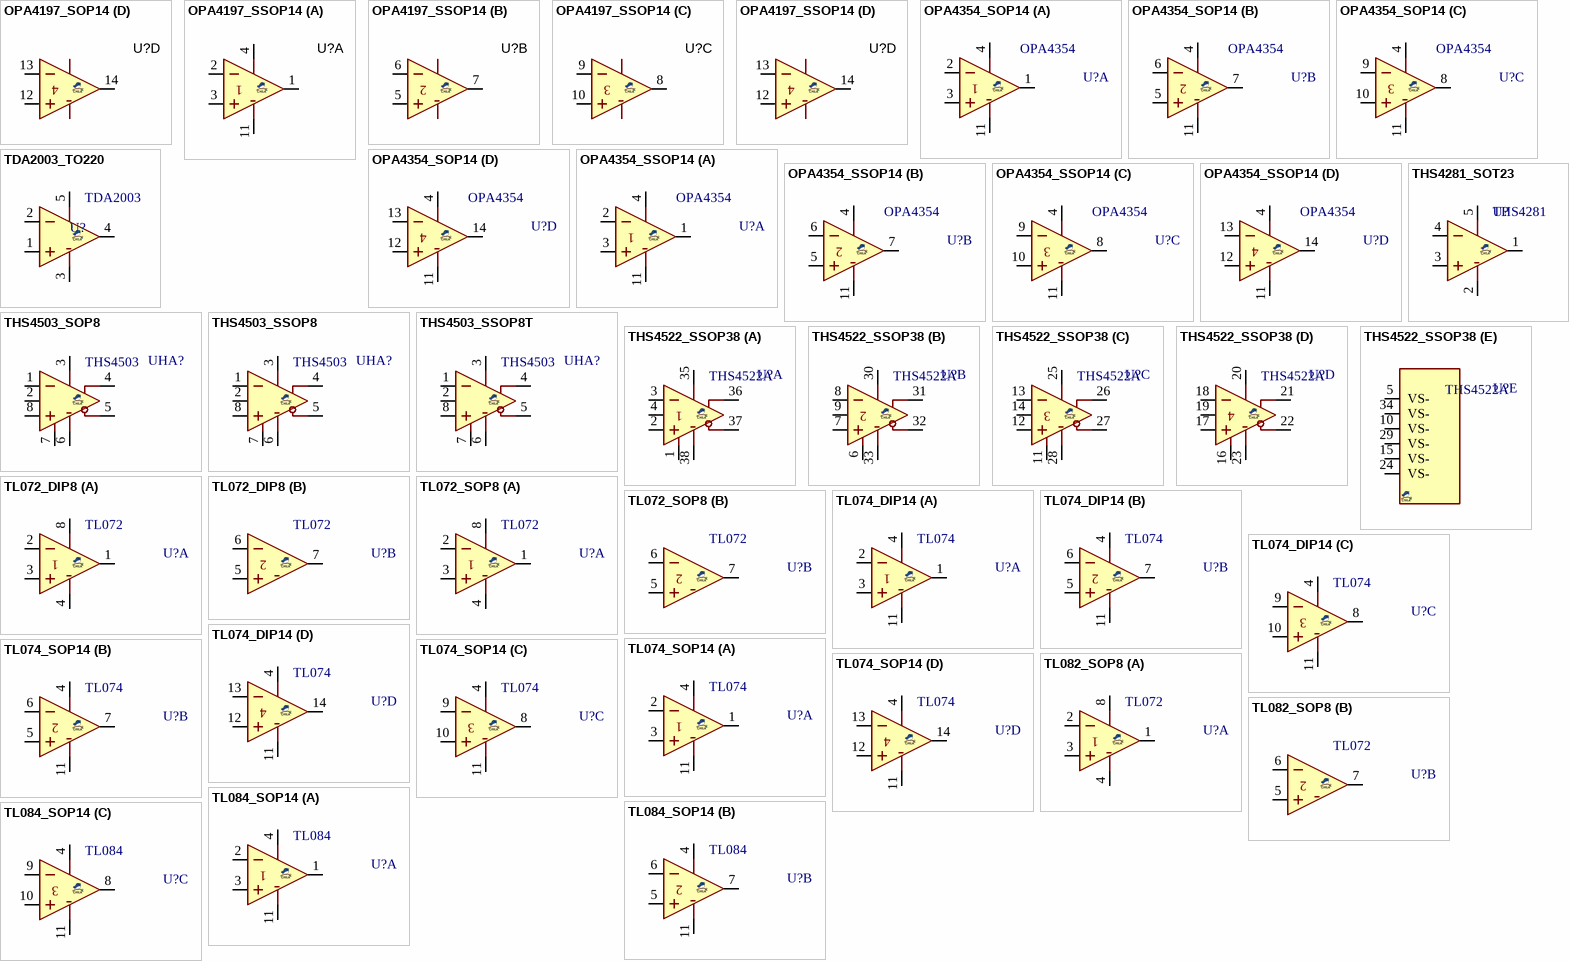
[diagram p6: symbols OPA4197_SOP14 to TL084_SOP14]

## OPA4197_SOP14
designator U?, comment OPA4197  (value not drawn)
Amp, Precision, Low Offset, Rail-to-Rail Input Output, 36-V; MANF: Texas Instruments; MANF_P#: OPA4197ID; PARAM2: 4.5~36V, ±2.25~±18V; PARAM: 10MHz BW, -40~125oC; PRICE: 3$; VALUE: OPA4197
footprint SO_14 (SOP, SOIC, 3.9mm width, 1.27mm pitch,)
part A pins: 1 OUT, 2 IN-, 3 IN+, 4 V+, 11 V-
part B pins: 5 IN+, 6 IN-, 7 OUT
part C pins: 8 OUT, 9 IN-, 10 IN+
part D pins: 12 IN+, 13 IN-, 14 OUT
1 alternate drawing of the same symbol

## OPA4197_SSOP14
designator U?, comment OPA4197  (value not drawn)
Amp, Precision, Low Offset, Rail-to-Rail Input Output, 36-V; MANF: Texas Instruments; MANF_P#: OPA4197IPW; PARAM2: 4.5~36V, ±2.25~±18V; PARAM: 10MHz BW, -40~125oC; VALUE: OPA4197
footprint SOG65_14 (PW TSSOP (TI), MO-153-AB (JEDEC), 14Lead, pitch: 0.65mm, 5x4.4x1.2mm)
part A pins: 1 OUT, 2 IN-, 3 IN+, 4 V+, 11 V-
part B pins: 5 IN+, 6 IN-, 7 OUT
part C pins: 8 OUT, 9 IN-, 10 IN+
part D pins: 12 IN+, 13 IN-, 14 OUT
1 alternate drawing of the same symbol